# Altium integrated library Zilog ZNEO.IntLib: 27 symbols (part 1 of 2)
Pins are listed as number, name and electrical type; pins without a type are passive.

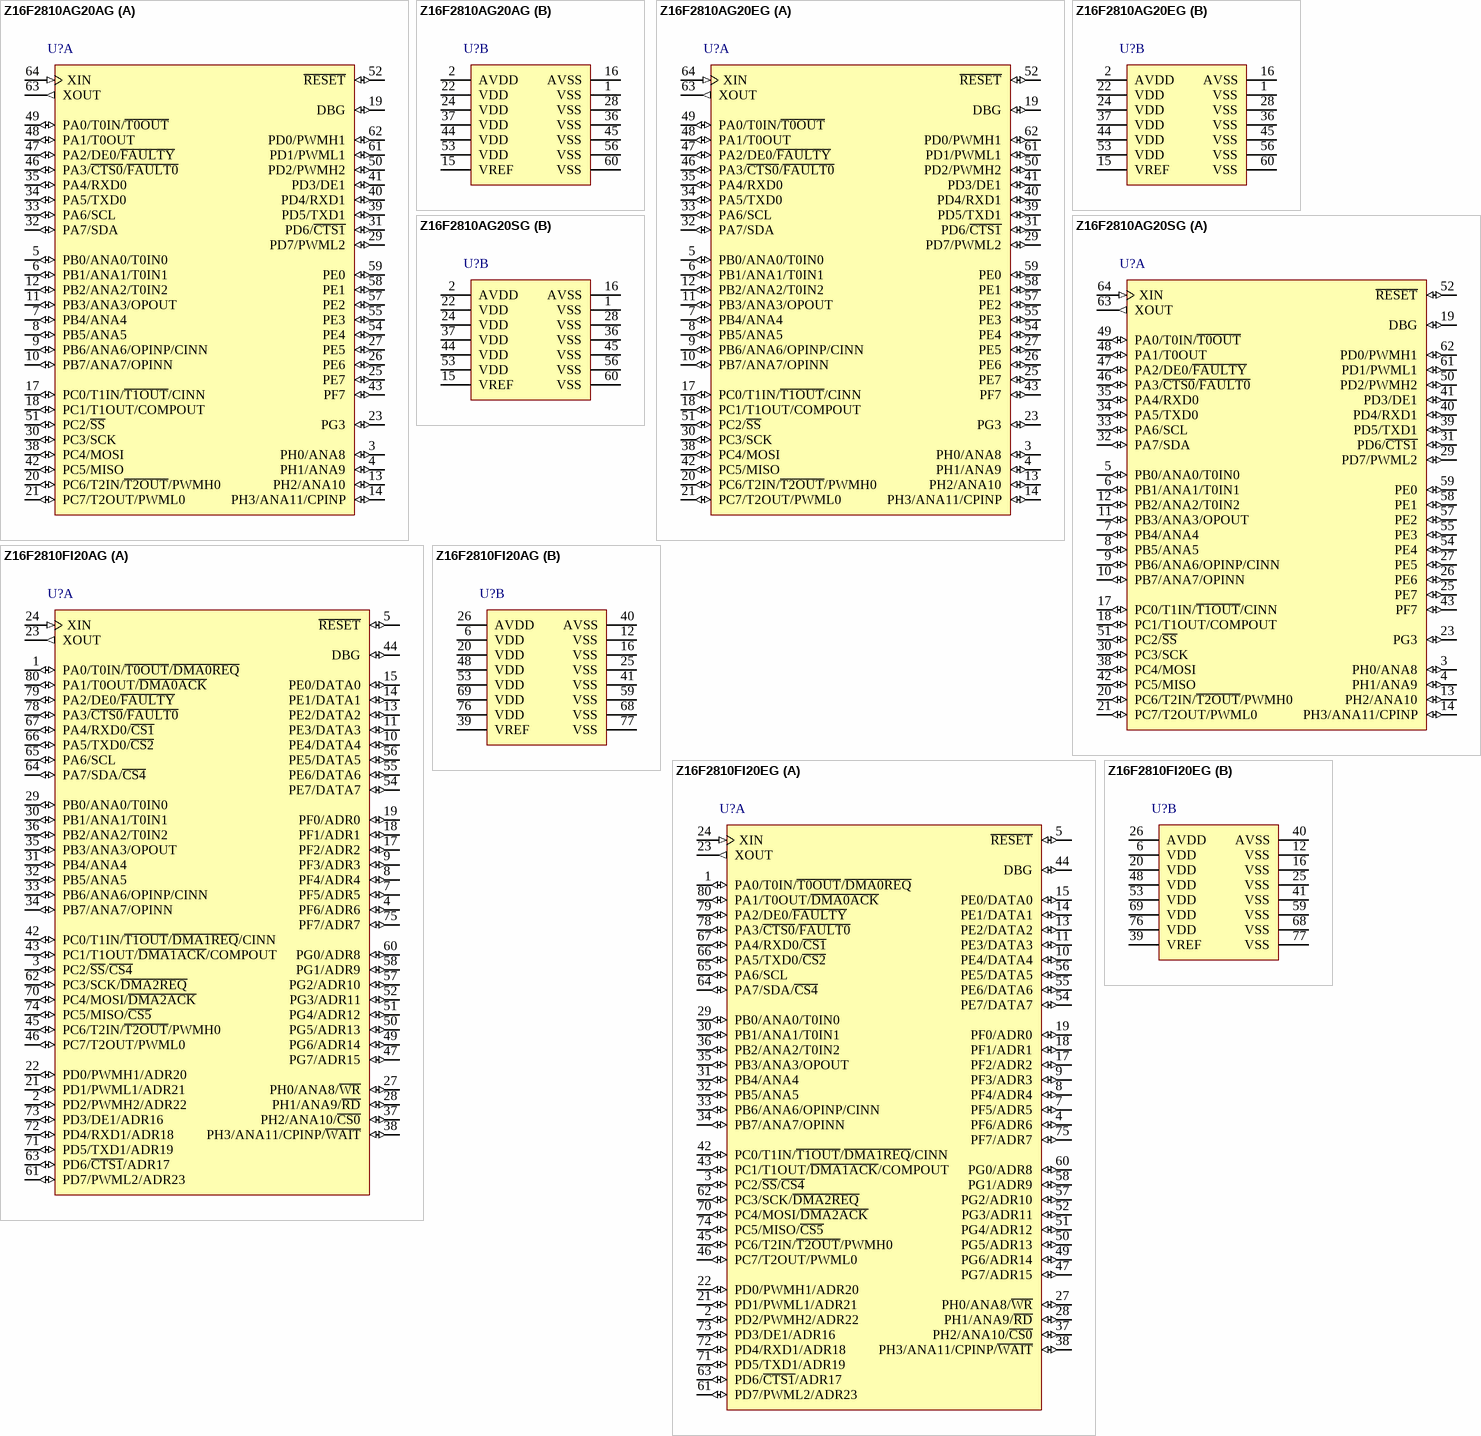
[diagram p0: symbols Z16F2810AG20AG to Z16F2810FI20EG]

## Z16F2810AG20AG
designator U?
Microcontroller, 16-Bit, ZNEO® Z16F Series, 20HMz, 128K Flash, 4K RAM, 46 IOs, 64-Pin LQFP, Automotive Grade, Pb-Free; DatasheetVersion: rev08, Aug-2010; PackageVersion: 1/08/2010; PackageReference: LQFP64; PackageDescription: 64-Pin Low-Profile Quad Flat Pack, 10 x 10 mm Body, 0.5 mm Pitch (LQFP); ComponentLink1Description: Manufacturer URL; ComponentLink1URL: http://www.zilog.com/
footprint LQFP64_N (Thin QFP, 64-Leads, Body 10x10mm, Pitch 0.5mm, IPC Medium Density)
footprint LQFP64_L (Thin QFP, 64-Leads, Body 10x10mm, Pitch 0.5mm, IPC High Density)
footprint LQFP64_M (Thin QFP, 64-Leads, Body 10x10mm, Pitch 0.5mm, IPC Low Density)
part A pins: 3 PH0/ANA8 (io), 4 PH1/ANA9 (io), 5 PB0/ANA0/T0IN0 (io), 6 PB1/ANA1/T0IN1 (io), 7 PB4/ANA4 (io), 8 PB5/ANA5 (io), 9 PB6/ANA6/OPINP/CINN (io), 10 PB7/ANA7/OPINN (io), 11 PB3/ANA3/OPOUT (io), 12 PB2/ANA2/T0IN2 (io), 13 PH2/ANA10 (io), 14 PH3/ANA11/CPINP (io), 17 PC0/T1IN/~{T1OUT}/CINN (io), 18 PC1/T1OUT/COMPOUT (io), 19 DBG (io), 20 PC6/T2IN/~{T2OUT}/PWMH0 (io), 21 PC7/T2OUT/PWML0 (io), 23 PG3 (io), 25 PE7 (io), 26 PE6 (io), 27 PE5 (io), 29 PD7/PWML2 (io), 30 PC3/SCK (io), 31 PD6/~{CTS1} (io), 32 PA7/SDA (io), 33 PA6/SCL (io), 34 PA5/TXD0 (io), 35 PA4/RXD0 (io), 38 PC4/MOSI (io), 39 PD5/TXD1 (io), 40 PD4/RXD1 (io), 41 PD3/DE1 (io), 42 PC5/MISO (io), 43 PF7 (io), 46 PA3/~{CTS0}/~{FAULT0} (io), 47 PA2/DE0/~{FAULTY} (io), 48 PA1/T0OUT (io), 49 PA0/T0IN/~{T0OUT} (io), 50 PD2/PWMH2 (io), 51 PC2/~{SS} (io), 52 ~{RESET} (io), 54 PE4 (io), 55 PE3 (io), 57 PE2 (io), 58 PE1 (io), 59 PE0 (io), 61 PD1/PWML1 (io), 62 PD0/PWMH1 (io), 63 XOUT (out), 64 XIN (in)
part B pins: 1 VSS (power), 2 AVDD (power), 15 VREF (power), 16 AVSS (power), 22 VDD (power), 24 VDD (power), 28 VSS (power), 36 VSS (power), 37 VDD (power), 44 VDD (power), 45 VSS (power), 53 VDD (power), 56 VSS (power), 60 VSS (power)

## Z16F2810AG20EG
designator U?
Microcontroller, 16-Bit, ZNEO® Z16F Series, 20HMz, 128K Flash, 4K RAM, 46 IOs, 64-Pin LQFP, Extended Grade, Pb-Free; DatasheetVersion: rev08, Aug-2010; PackageVersion: 1/08/2010; PackageReference: LQFP64; PackageDescription: 64-Pin Low-Profile Quad Flat Pack, 10 x 10 mm Body, 0.5 mm Pitch (LQFP); ComponentLink1Description: Manufacturer URL; ComponentLink1URL: http://www.zilog.com/
footprint LQFP64_N (Thin QFP, 64-Leads, Body 10x10mm, Pitch 0.5mm, IPC Medium Density)
footprint LQFP64_L (Thin QFP, 64-Leads, Body 10x10mm, Pitch 0.5mm, IPC High Density)
footprint LQFP64_M (Thin QFP, 64-Leads, Body 10x10mm, Pitch 0.5mm, IPC Low Density)
part A pins: 3 PH0/ANA8 (io), 4 PH1/ANA9 (io), 5 PB0/ANA0/T0IN0 (io), 6 PB1/ANA1/T0IN1 (io), 7 PB4/ANA4 (io), 8 PB5/ANA5 (io), 9 PB6/ANA6/OPINP/CINN (io), 10 PB7/ANA7/OPINN (io), 11 PB3/ANA3/OPOUT (io), 12 PB2/ANA2/T0IN2 (io), 13 PH2/ANA10 (io), 14 PH3/ANA11/CPINP (io), 17 PC0/T1IN/~{T1OUT}/CINN (io), 18 PC1/T1OUT/COMPOUT (io), 19 DBG (io), 20 PC6/T2IN/~{T2OUT}/PWMH0 (io), 21 PC7/T2OUT/PWML0 (io), 23 PG3 (io), 25 PE7 (io), 26 PE6 (io), 27 PE5 (io), 29 PD7/PWML2 (io), 30 PC3/SCK (io), 31 PD6/~{CTS1} (io), 32 PA7/SDA (io), 33 PA6/SCL (io), 34 PA5/TXD0 (io), 35 PA4/RXD0 (io), 38 PC4/MOSI (io), 39 PD5/TXD1 (io), 40 PD4/RXD1 (io), 41 PD3/DE1 (io), 42 PC5/MISO (io), 43 PF7 (io), 46 PA3/~{CTS0}/~{FAULT0} (io), 47 PA2/DE0/~{FAULTY} (io), 48 PA1/T0OUT (io), 49 PA0/T0IN/~{T0OUT} (io), 50 PD2/PWMH2 (io), 51 PC2/~{SS} (io), 52 ~{RESET} (io), 54 PE4 (io), 55 PE3 (io), 57 PE2 (io), 58 PE1 (io), 59 PE0 (io), 61 PD1/PWML1 (io), 62 PD0/PWMH1 (io), 63 XOUT (out), 64 XIN (in)
part B pins: 1 VSS (power), 2 AVDD (power), 15 VREF (power), 16 AVSS (power), 22 VDD (power), 24 VDD (power), 28 VSS (power), 36 VSS (power), 37 VDD (power), 44 VDD (power), 45 VSS (power), 53 VDD (power), 56 VSS (power), 60 VSS (power)

## Z16F2810AG20SG
designator U?
Microcontroller, 16-Bit, ZNEO® Z16F Series, 20HMz, 128K Flash, 4K RAM, 46 IOs, 64-Pin LQFP, Standard Grade, Pb-Free; DatasheetVersion: rev08, Aug-2010; PackageVersion: 1/08/2010; PackageReference: LQFP64; PackageDescription: 64-Pin Low-Profile Quad Flat Pack, 10 x 10 mm Body, 0.5 mm Pitch (LQFP); ComponentLink1Description: Manufacturer URL; ComponentLink1URL: http://www.zilog.com/
footprint LQFP64_N (Thin QFP, 64-Leads, Body 10x10mm, Pitch 0.5mm, IPC Medium Density)
footprint LQFP64_L (Thin QFP, 64-Leads, Body 10x10mm, Pitch 0.5mm, IPC High Density)
footprint LQFP64_M (Thin QFP, 64-Leads, Body 10x10mm, Pitch 0.5mm, IPC Low Density)
part A pins: 3 PH0/ANA8 (io), 4 PH1/ANA9 (io), 5 PB0/ANA0/T0IN0 (io), 6 PB1/ANA1/T0IN1 (io), 7 PB4/ANA4 (io), 8 PB5/ANA5 (io), 9 PB6/ANA6/OPINP/CINN (io), 10 PB7/ANA7/OPINN (io), 11 PB3/ANA3/OPOUT (io), 12 PB2/ANA2/T0IN2 (io), 13 PH2/ANA10 (io), 14 PH3/ANA11/CPINP (io), 17 PC0/T1IN/~{T1OUT}/CINN (io), 18 PC1/T1OUT/COMPOUT (io), 19 DBG (io), 20 PC6/T2IN/~{T2OUT}/PWMH0 (io), 21 PC7/T2OUT/PWML0 (io), 23 PG3 (io), 25 PE7 (io), 26 PE6 (io), 27 PE5 (io), 29 PD7/PWML2 (io), 30 PC3/SCK (io), 31 PD6/~{CTS1} (io), 32 PA7/SDA (io), 33 PA6/SCL (io), 34 PA5/TXD0 (io), 35 PA4/RXD0 (io), 38 PC4/MOSI (io), 39 PD5/TXD1 (io), 40 PD4/RXD1 (io), 41 PD3/DE1 (io), 42 PC5/MISO (io), 43 PF7 (io), 46 PA3/~{CTS0}/~{FAULT0} (io), 47 PA2/DE0/~{FAULTY} (io), 48 PA1/T0OUT (io), 49 PA0/T0IN/~{T0OUT} (io), 50 PD2/PWMH2 (io), 51 PC2/~{SS} (io), 52 ~{RESET} (io), 54 PE4 (io), 55 PE3 (io), 57 PE2 (io), 58 PE1 (io), 59 PE0 (io), 61 PD1/PWML1 (io), 62 PD0/PWMH1 (io), 63 XOUT (out), 64 XIN (in)
part B pins: 1 VSS (power), 2 AVDD (power), 15 VREF (power), 16 AVSS (power), 22 VDD (power), 24 VDD (power), 28 VSS (power), 36 VSS (power), 37 VDD (power), 44 VDD (power), 45 VSS (power), 53 VDD (power), 56 VSS (power), 60 VSS (power)

## Z16F2810FI20AG
designator U?
Microcontroller, 16-Bit, ZNEO® Z16F Series, 20HMz, 128K Flash, 4K RAM, 60 IOs, 80-Pin QFP, Automotive Grade, Pb-Free; DatasheetVersion: rev08, Aug-2010; PackageVersion: 1/08/2010; PackageReference: RQFP80; PackageDescription: 80-Pin Quad Flat Pack Rectangular 0.8 mm Pitch (QFP); ComponentLink1Description: Manufacturer URL; ComponentLink1URL: http://www.zilog.com/
footprint RQFP80_N (QFP, 80-Leads, Body 20x14mm, Pitch 0.8mm, IPC Medium Density)
footprint RQFP80_L (QFP, 80-Leads, Body 20x14mm, Pitch 0.8mm, IPC High Density)
footprint RQFP80_M (QFP, 80-Leads, Body 20x14mm, Pitch 0.8mm, IPC Low Density)
part A pins: 1 PA0/T0IN/~{T0OUT}/~{DMA0REQ} (io), 2 PD2/PWMH2/ADR22 (io), 3 PC2/~{SS}/~{CS4} (io), 4 PF6/ADR6 (io), 5 ~{RESET} (io), 7 PF5/ADR5 (io), 8 PF4/ADR4 (io), 9 PF3/ADR3 (io), 10 PE4/DATA4 (io), 11 PE3/DATA3 (io), 13 PE2/DATA2 (io), 14 PE1/DATA1 (io), 15 PE0/DATA0 (io), 17 PF2/ADR2 (io), 18 PF1/ADR1 (io), 19 PF0/ADR0 (io), 21 PD1/PWML1/ADR21 (io), 22 PD0/PWMH1/ADR20 (io), 23 XOUT (out), 24 XIN (in), 27 PH0/ANA8/~{WR} (io), 28 PH1/ANA9/~{RD} (io), 29 PB0/ANA0/T0IN0 (io), 30 PB1/ANA1/T0IN1 (io), 31 PB4/ANA4 (io), 32 PB5/ANA5 (io), 33 PB6/ANA6/OPINP/CINN (io), 34 PB7/ANA7/OPINN (io), 35 PB3/ANA3/OPOUT (io), 36 PB2/ANA2/T0IN2 (io), 37 PH2/ANA10/~{CS0} (io), 38 PH3/ANA11/CPINP/~{WAIT} (io), 42 PC0/T1IN/~{T1OUT}/~{DMA1REQ}/CINN (io), 43 PC1/T1OUT/~{DMA1ACK}/COMPOUT (io), 44 DBG (io), 45 PC6/T2IN/~{T2OUT}/PWMH0 (io), 46 PC7/T2OUT/PWML0 (io), 47 PG7/ADR15 (io), 49 PG6/ADR14 (io), 50 PG5/ADR13 (io), 51 PG4/ADR12 (io), 52 PG3/ADR11 (io), 54 PE7/DATA7 (io), 55 PE6/DATA6 (io), 56 PE5/DATA5 (io), 57 PG2/ADR10 (io), 58 PG1/ADR9 (io), 60 PG0/ADR8 (io), 61 PD7/PWML2/ADR23 (io), 62 PC3/SCK/~{DMA2REQ} (io), 63 PD6/~{CTS1}/ADR17 (io), 64 PA7/SDA/~{CS4} (io), 65 PA6/SCL (io), 66 PA5/TXD0/~{CS2} (io), 67 PA4/RXD0/~{CS1} (io), 70 PC4/MOSI/~{DMA2ACK} (io), 71 PD5/TXD1/ADR19 (io), 72 PD4/RXD1/ADR18 (io), 73 PD3/DE1/ADR16 (io), 74 PC5/MISO/~{CS5} (io), 75 PF7/ADR7 (io), 78 PA3/~{CTS0}/~{FAULT0} (io), 79 PA2/DE0/~{FAULTY} (io), 80 PA1/T0OUT/~{DMA0ACK} (io)
part B pins: 6 VDD (power), 12 VSS (power), 16 VSS (power), 20 VDD (power), 25 VSS (power), 26 AVDD (power), 39 VREF (power), 40 AVSS (power), 41 VSS (power), 48 VDD (power), 53 VDD (power), 59 VSS (power), 68 VSS (power), 69 VDD (power), 76 VDD (power), 77 VSS (power)

## Z16F2810FI20EG
designator U?
Microcontroller, 16-Bit, ZNEO® Z16F Series, 20HMz, 128K Flash, 4K RAM, 60 IOs, 80-Pin QFP, Extended Grade, Pb-Free; DatasheetVersion: rev08, Aug-2010; PackageVersion: 1/08/2010; PackageReference: RQFP80; PackageDescription: 80-Pin Quad Flat Pack Rectangular 0.8 mm Pitch (QFP); ComponentLink1Description: Manufacturer URL; ComponentLink1URL: http://www.zilog.com/
footprint RQFP80_N (QFP, 80-Leads, Body 20x14mm, Pitch 0.8mm, IPC Medium Density)
footprint RQFP80_L (QFP, 80-Leads, Body 20x14mm, Pitch 0.8mm, IPC High Density)
footprint RQFP80_M (QFP, 80-Leads, Body 20x14mm, Pitch 0.8mm, IPC Low Density)
part A pins: 1 PA0/T0IN/~{T0OUT}/~{DMA0REQ} (io), 2 PD2/PWMH2/ADR22 (io), 3 PC2/~{SS}/~{CS4} (io), 4 PF6/ADR6 (io), 5 ~{RESET} (io), 7 PF5/ADR5 (io), 8 PF4/ADR4 (io), 9 PF3/ADR3 (io), 10 PE4/DATA4 (io), 11 PE3/DATA3 (io), 13 PE2/DATA2 (io), 14 PE1/DATA1 (io), 15 PE0/DATA0 (io), 17 PF2/ADR2 (io), 18 PF1/ADR1 (io), 19 PF0/ADR0 (io), 21 PD1/PWML1/ADR21 (io), 22 PD0/PWMH1/ADR20 (io), 23 XOUT (out), 24 XIN (in), 27 PH0/ANA8/~{WR} (io), 28 PH1/ANA9/~{RD} (io), 29 PB0/ANA0/T0IN0 (io), 30 PB1/ANA1/T0IN1 (io), 31 PB4/ANA4 (io), 32 PB5/ANA5 (io), 33 PB6/ANA6/OPINP/CINN (io), 34 PB7/ANA7/OPINN (io), 35 PB3/ANA3/OPOUT (io), 36 PB2/ANA2/T0IN2 (io), 37 PH2/ANA10/~{CS0} (io), 38 PH3/ANA11/CPINP/~{WAIT} (io), 42 PC0/T1IN/~{T1OUT}/~{DMA1REQ}/CINN (io), 43 PC1/T1OUT/~{DMA1ACK}/COMPOUT (io), 44 DBG (io), 45 PC6/T2IN/~{T2OUT}/PWMH0 (io), 46 PC7/T2OUT/PWML0 (io), 47 PG7/ADR15 (io), 49 PG6/ADR14 (io), 50 PG5/ADR13 (io), 51 PG4/ADR12 (io), 52 PG3/ADR11 (io), 54 PE7/DATA7 (io), 55 PE6/DATA6 (io), 56 PE5/DATA5 (io), 57 PG2/ADR10 (io), 58 PG1/ADR9 (io), 60 PG0/ADR8 (io), 61 PD7/PWML2/ADR23 (io), 62 PC3/SCK/~{DMA2REQ} (io), 63 PD6/~{CTS1}/ADR17 (io), 64 PA7/SDA/~{CS4} (io), 65 PA6/SCL (io), 66 PA5/TXD0/~{CS2} (io), 67 PA4/RXD0/~{CS1} (io), 70 PC4/MOSI/~{DMA2ACK} (io), 71 PD5/TXD1/ADR19 (io), 72 PD4/RXD1/ADR18 (io), 73 PD3/DE1/ADR16 (io), 74 PC5/MISO/~{CS5} (io), 75 PF7/ADR7 (io), 78 PA3/~{CTS0}/~{FAULT0} (io), 79 PA2/DE0/~{FAULTY} (io), 80 PA1/T0OUT/~{DMA0ACK} (io)
part B pins: 6 VDD (power), 12 VSS (power), 16 VSS (power), 20 VDD (power), 25 VSS (power), 26 AVDD (power), 39 VREF (power), 40 AVSS (power), 41 VSS (power), 48 VDD (power), 53 VDD (power), 59 VSS (power), 68 VSS (power), 69 VDD (power), 76 VDD (power), 77 VSS (power)

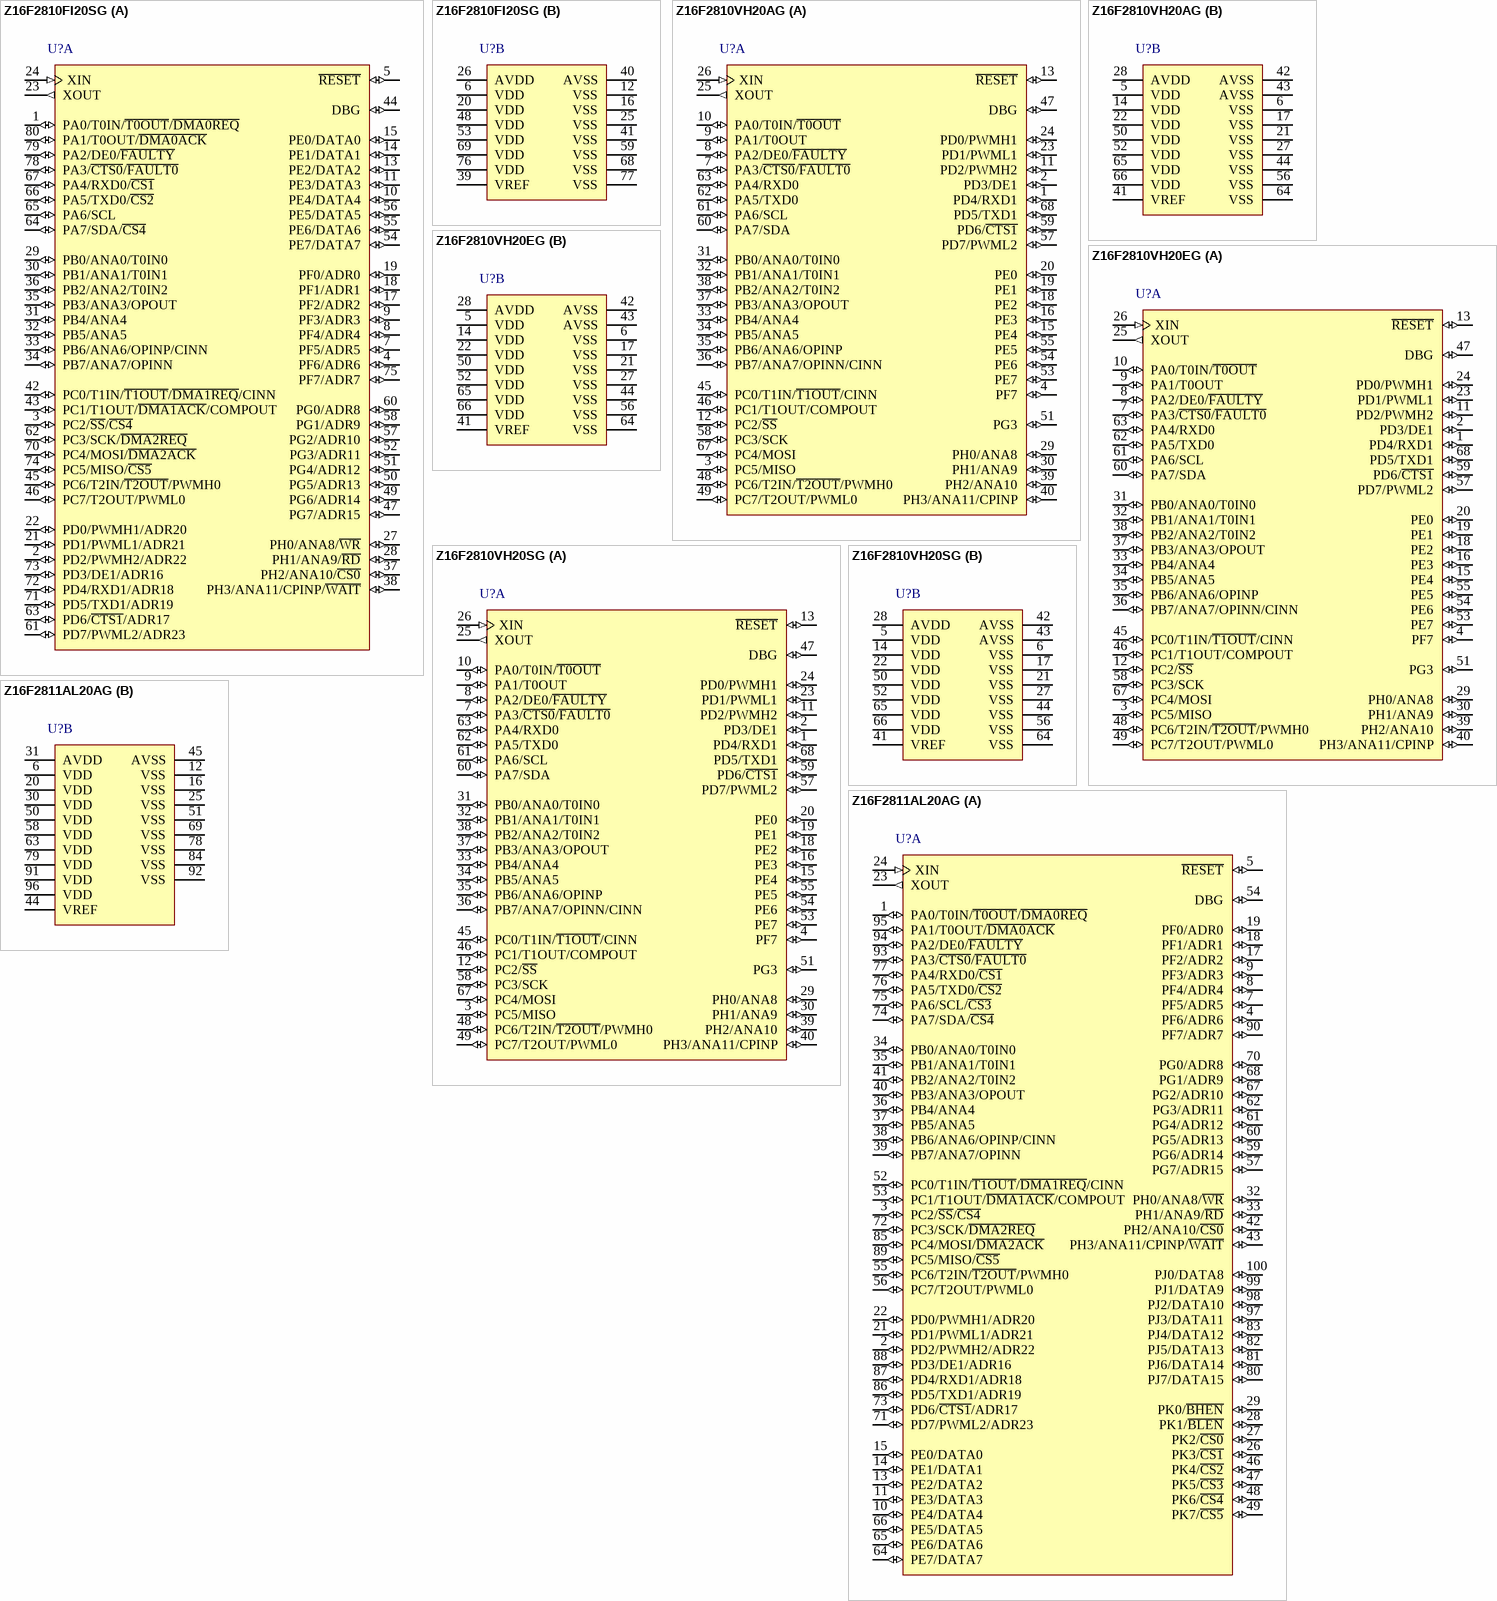
[diagram p1: symbols Z16F2810FI20SG to Z16F2811AL20AG]

## Z16F2810FI20SG
designator U?
Microcontroller, 16-Bit, ZNEO® Z16F Series, 20HMz, 128K Flash, 4K RAM, 60 IOs, 80-Pin QFP, Standard Grade, Pb-Free; DatasheetVersion: rev08, Aug-2010; PackageVersion: 1/08/2010; PackageReference: RQFP80; PackageDescription: 80-Pin Quad Flat Pack Rectangular 0.8 mm Pitch (QFP); ComponentLink1Description: Manufacturer URL; ComponentLink1URL: http://www.zilog.com/
footprint RQFP80_N (QFP, 80-Leads, Body 20x14mm, Pitch 0.8mm, IPC Medium Density)
footprint RQFP80_L (QFP, 80-Leads, Body 20x14mm, Pitch 0.8mm, IPC High Density)
footprint RQFP80_M (QFP, 80-Leads, Body 20x14mm, Pitch 0.8mm, IPC Low Density)
part A pins: 1 PA0/T0IN/~{T0OUT}/~{DMA0REQ} (io), 2 PD2/PWMH2/ADR22 (io), 3 PC2/~{SS}/~{CS4} (io), 4 PF6/ADR6 (io), 5 ~{RESET} (io), 7 PF5/ADR5 (io), 8 PF4/ADR4 (io), 9 PF3/ADR3 (io), 10 PE4/DATA4 (io), 11 PE3/DATA3 (io), 13 PE2/DATA2 (io), 14 PE1/DATA1 (io), 15 PE0/DATA0 (io), 17 PF2/ADR2 (io), 18 PF1/ADR1 (io), 19 PF0/ADR0 (io), 21 PD1/PWML1/ADR21 (io), 22 PD0/PWMH1/ADR20 (io), 23 XOUT (out), 24 XIN (in), 27 PH0/ANA8/~{WR} (io), 28 PH1/ANA9/~{RD} (io), 29 PB0/ANA0/T0IN0 (io), 30 PB1/ANA1/T0IN1 (io), 31 PB4/ANA4 (io), 32 PB5/ANA5 (io), 33 PB6/ANA6/OPINP/CINN (io), 34 PB7/ANA7/OPINN (io), 35 PB3/ANA3/OPOUT (io), 36 PB2/ANA2/T0IN2 (io), 37 PH2/ANA10/~{CS0} (io), 38 PH3/ANA11/CPINP/~{WAIT} (io), 42 PC0/T1IN/~{T1OUT}/~{DMA1REQ}/CINN (io), 43 PC1/T1OUT/~{DMA1ACK}/COMPOUT (io), 44 DBG (io), 45 PC6/T2IN/~{T2OUT}/PWMH0 (io), 46 PC7/T2OUT/PWML0 (io), 47 PG7/ADR15 (io), 49 PG6/ADR14 (io), 50 PG5/ADR13 (io), 51 PG4/ADR12 (io), 52 PG3/ADR11 (io), 54 PE7/DATA7 (io), 55 PE6/DATA6 (io), 56 PE5/DATA5 (io), 57 PG2/ADR10 (io), 58 PG1/ADR9 (io), 60 PG0/ADR8 (io), 61 PD7/PWML2/ADR23 (io), 62 PC3/SCK/~{DMA2REQ} (io), 63 PD6/~{CTS1}/ADR17 (io), 64 PA7/SDA/~{CS4} (io), 65 PA6/SCL (io), 66 PA5/TXD0/~{CS2} (io), 67 PA4/RXD0/~{CS1} (io), 70 PC4/MOSI/~{DMA2ACK} (io), 71 PD5/TXD1/ADR19 (io), 72 PD4/RXD1/ADR18 (io), 73 PD3/DE1/ADR16 (io), 74 PC5/MISO/~{CS5} (io), 75 PF7/ADR7 (io), 78 PA3/~{CTS0}/~{FAULT0} (io), 79 PA2/DE0/~{FAULTY} (io), 80 PA1/T0OUT/~{DMA0ACK} (io)
part B pins: 6 VDD (power), 12 VSS (power), 16 VSS (power), 20 VDD (power), 25 VSS (power), 26 AVDD (power), 39 VREF (power), 40 AVSS (power), 41 VSS (power), 48 VDD (power), 53 VDD (power), 59 VSS (power), 68 VSS (power), 69 VDD (power), 76 VDD (power), 77 VSS (power)

## Z16F2810VH20AG
designator U?
Microcontroller, 16-Bit, ZNEO® Z16F Series, 20HMz, 128K Flash, 4K RAM, 46 IOs, 68-Pin PLCC, Automotive Grade, Pb-Free; DatasheetVersion: rev08, Aug-2010; PackageVersion: 1/08/2010; PackageReference: PLCC68; PackageDescription: 68-Pin Plastic Leaded Chip Carrier 1.27 mm Pitch (PLCC); Code_IPC: PLCC-68; ComponentLink1Description: Manufacturer URL; ComponentLink1URL: http://www.zilog.com/
footprint PLCC68_N (Leaded Chip Carrier, 68-Leads, Body 24x24mm, Pitch 1.27mm, IPC Medium Density)
footprint PLCC68_L (Leaded Chip Carrier, 68-Leads, Body 24x24mm, Pitch 1.27mm, IPC High Density)
footprint PLCC68_M (Leaded Chip Carrier, 68-Leads, Body 24x24mm, Pitch 1.27mm, IPC Low Density)
part A pins: 1 PD4/RXD1 (io), 2 PD3/DE1 (io), 3 PC5/MISO (io), 4 PF7 (io), 7 PA3/~{CTS0}/~{FAULT0} (io), 8 PA2/DE0/~{FAULTY} (io), 9 PA1/T0OUT (io), 10 PA0/T0IN/~{T0OUT} (io), 11 PD2/PWMH2 (io), 12 PC2/~{SS} (io), 13 ~{RESET} (io), 15 PE4 (io), 16 PE3 (io), 18 PE2 (io), 19 PE1 (io), 20 PE0 (io), 23 PD1/PWML1 (io), 24 PD0/PWMH1 (io), 25 XOUT (out), 26 XIN (in), 29 PH0/ANA8 (io), 30 PH1/ANA9 (io), 31 PB0/ANA0/T0IN0 (io), 32 PB1/ANA1/T0IN1 (io), 33 PB4/ANA4 (io), 34 PB5/ANA5 (io), 35 PB6/ANA6/OPINP (io), 36 PB7/ANA7/OPINN/CINN (io), 37 PB3/ANA3/OPOUT (io), 38 PB2/ANA2/T0IN2 (io), 39 PH2/ANA10 (io), 40 PH3/ANA11/CPINP (io), 45 PC0/T1IN/~{T1OUT}/CINN (io), 46 PC1/T1OUT/COMPOUT (io), 47 DBG (io), 48 PC6/T2IN/~{T2OUT}/PWMH0 (io), 49 PC7/T2OUT/PWML0 (io), 51 PG3 (io), 53 PE7 (io), 54 PE6 (io), 55 PE5 (io), 57 PD7/PWML2 (io), 58 PC3/SCK (io), 59 PD6/~{CTS1} (io), 60 PA7/SDA (io), 61 PA6/SCL (io), 62 PA5/TXD0 (io), 63 PA4/RXD0 (io), 67 PC4/MOSI (io), 68 PD5/TXD1 (io)
part B pins: 5 VDD (power), 6 VSS (power), 14 VDD (power), 17 VSS (power), 21 VSS (power), 22 VDD (power), 27 VSS (power), 28 AVDD (power), 41 VREF (power), 42 AVSS (power), 43 AVSS (power), 44 VSS (power), 50 VDD (power), 52 VDD (power), 56 VSS (power), 64 VSS (power), 65 VDD (power), 66 VDD (power)

## Z16F2810VH20EG
designator U?
Microcontroller, 16-Bit, ZNEO® Z16F Series, 20HMz, 128K Flash, 4K RAM, 46 IOs, 68-Pin PLCC, Extended Grade, Pb-Free; DatasheetVersion: rev08, Aug-2010; PackageVersion: 1/08/2010; PackageReference: PLCC68; PackageDescription: 68-Pin Plastic Leaded Chip Carrier 1.27 mm Pitch (PLCC); Code_IPC: PLCC-68; ComponentLink1Description: Manufacturer URL; ComponentLink1URL: http://www.zilog.com/
footprint PLCC68_N (Leaded Chip Carrier, 68-Leads, Body 24x24mm, Pitch 1.27mm, IPC Medium Density)
footprint PLCC68_L (Leaded Chip Carrier, 68-Leads, Body 24x24mm, Pitch 1.27mm, IPC High Density)
footprint PLCC68_M (Leaded Chip Carrier, 68-Leads, Body 24x24mm, Pitch 1.27mm, IPC Low Density)
part A pins: 1 PD4/RXD1 (io), 2 PD3/DE1 (io), 3 PC5/MISO (io), 4 PF7 (io), 7 PA3/~{CTS0}/~{FAULT0} (io), 8 PA2/DE0/~{FAULTY} (io), 9 PA1/T0OUT (io), 10 PA0/T0IN/~{T0OUT} (io), 11 PD2/PWMH2 (io), 12 PC2/~{SS} (io), 13 ~{RESET} (io), 15 PE4 (io), 16 PE3 (io), 18 PE2 (io), 19 PE1 (io), 20 PE0 (io), 23 PD1/PWML1 (io), 24 PD0/PWMH1 (io), 25 XOUT (out), 26 XIN (in), 29 PH0/ANA8 (io), 30 PH1/ANA9 (io), 31 PB0/ANA0/T0IN0 (io), 32 PB1/ANA1/T0IN1 (io), 33 PB4/ANA4 (io), 34 PB5/ANA5 (io), 35 PB6/ANA6/OPINP (io), 36 PB7/ANA7/OPINN/CINN (io), 37 PB3/ANA3/OPOUT (io), 38 PB2/ANA2/T0IN2 (io), 39 PH2/ANA10 (io), 40 PH3/ANA11/CPINP (io), 45 PC0/T1IN/~{T1OUT}/CINN (io), 46 PC1/T1OUT/COMPOUT (io), 47 DBG (io), 48 PC6/T2IN/~{T2OUT}/PWMH0 (io), 49 PC7/T2OUT/PWML0 (io), 51 PG3 (io), 53 PE7 (io), 54 PE6 (io), 55 PE5 (io), 57 PD7/PWML2 (io), 58 PC3/SCK (io), 59 PD6/~{CTS1} (io), 60 PA7/SDA (io), 61 PA6/SCL (io), 62 PA5/TXD0 (io), 63 PA4/RXD0 (io), 67 PC4/MOSI (io), 68 PD5/TXD1 (io)
part B pins: 5 VDD (power), 6 VSS (power), 14 VDD (power), 17 VSS (power), 21 VSS (power), 22 VDD (power), 27 VSS (power), 28 AVDD (power), 41 VREF (power), 42 AVSS (power), 43 AVSS (power), 44 VSS (power), 50 VDD (power), 52 VDD (power), 56 VSS (power), 64 VSS (power), 65 VDD (power), 66 VDD (power)

## Z16F2810VH20SG
designator U?
Microcontroller, 16-Bit, ZNEO® Z16F Series, 20HMz, 128K Flash, 4K RAM, 46 IOs, 68-Pin PLCC, Standard Grade, Pb-Free; DatasheetVersion: rev08, Aug-2010; PackageVersion: 1/08/2010; PackageReference: PLCC68; PackageDescription: 68-Pin Plastic Leaded Chip Carrier 1.27 mm Pitch (PLCC); Code_IPC: PLCC-68; ComponentLink1Description: Manufacturer URL; ComponentLink1URL: http://www.zilog.com/
footprint PLCC68_N (Leaded Chip Carrier, 68-Leads, Body 24x24mm, Pitch 1.27mm, IPC Medium Density)
footprint PLCC68_L (Leaded Chip Carrier, 68-Leads, Body 24x24mm, Pitch 1.27mm, IPC High Density)
footprint PLCC68_M (Leaded Chip Carrier, 68-Leads, Body 24x24mm, Pitch 1.27mm, IPC Low Density)
part A pins: 1 PD4/RXD1 (io), 2 PD3/DE1 (io), 3 PC5/MISO (io), 4 PF7 (io), 7 PA3/~{CTS0}/~{FAULT0} (io), 8 PA2/DE0/~{FAULTY} (io), 9 PA1/T0OUT (io), 10 PA0/T0IN/~{T0OUT} (io), 11 PD2/PWMH2 (io), 12 PC2/~{SS} (io), 13 ~{RESET} (io), 15 PE4 (io), 16 PE3 (io), 18 PE2 (io), 19 PE1 (io), 20 PE0 (io), 23 PD1/PWML1 (io), 24 PD0/PWMH1 (io), 25 XOUT (out), 26 XIN (in), 29 PH0/ANA8 (io), 30 PH1/ANA9 (io), 31 PB0/ANA0/T0IN0 (io), 32 PB1/ANA1/T0IN1 (io), 33 PB4/ANA4 (io), 34 PB5/ANA5 (io), 35 PB6/ANA6/OPINP (io), 36 PB7/ANA7/OPINN/CINN (io), 37 PB3/ANA3/OPOUT (io), 38 PB2/ANA2/T0IN2 (io), 39 PH2/ANA10 (io), 40 PH3/ANA11/CPINP (io), 45 PC0/T1IN/~{T1OUT}/CINN (io), 46 PC1/T1OUT/COMPOUT (io), 47 DBG (io), 48 PC6/T2IN/~{T2OUT}/PWMH0 (io), 49 PC7/T2OUT/PWML0 (io), 51 PG3 (io), 53 PE7 (io), 54 PE6 (io), 55 PE5 (io), 57 PD7/PWML2 (io), 58 PC3/SCK (io), 59 PD6/~{CTS1} (io), 60 PA7/SDA (io), 61 PA6/SCL (io), 62 PA5/TXD0 (io), 63 PA4/RXD0 (io), 67 PC4/MOSI (io), 68 PD5/TXD1 (io)
part B pins: 5 VDD (power), 6 VSS (power), 14 VDD (power), 17 VSS (power), 21 VSS (power), 22 VDD (power), 27 VSS (power), 28 AVDD (power), 41 VREF (power), 42 AVSS (power), 43 AVSS (power), 44 VSS (power), 50 VDD (power), 52 VDD (power), 56 VSS (power), 64 VSS (power), 65 VDD (power), 66 VDD (power)

## Z16F2811AL20AG
designator U?
Microcontroller, 16-Bit, ZNEO® Z16F Series, 20HMz, 128K Flash, 4K RAM, 76 IOs, 100-Pin LQFP, Automotive Grade, Pb-Free; DatasheetVersion: rev08, Aug-2010; PackageVersion: 1/08/2010; PackageReference: LQFP100; PackageDescription: 100-Pin Low-Profile Quad Flat Pack, 14 x 14 mm Body, 0.5 mm Pitch (LQFP); ComponentLink1Description: Manufacturer URL; ComponentLink1URL: http://www.zilog.com/
footprint LQFP100_N (Thin QFP, 100-Leads, Body 14x14mm, Pitch 0.5mm, IPC Medium Density)
footprint LQFP100_L (Thin QFP, 100-Leads, Body 14x14mm, Pitch 0.5mm, IPC High Density)
footprint LQFP100_M (Thin QFP, 100-Leads, Body 14x14mm, Pitch 0.5mm, IPC Low Density)
part A pins: 1 PA0/T0IN/~{T0OUT}/~{DMA0REQ} (io), 2 PD2/PWMH2/ADR22 (io), 3 PC2/~{SS}/~{CS4} (io), 4 PF6/ADR6 (io), 5 ~{RESET} (io), 7 PF5/ADR5 (io), 8 PF4/ADR4 (io), 9 PF3/ADR3 (io), 10 PE4/DATA4 (io), 11 PE3/DATA3 (io), 13 PE2/DATA2 (io), 14 PE1/DATA1 (io), 15 PE0/DATA0 (io), 17 PF2/ADR2 (io), 18 PF1/ADR1 (io), 19 PF0/ADR0 (io), 21 PD1/PWML1/ADR21 (io), 22 PD0/PWMH1/ADR20 (io), 23 XOUT (out), 24 XIN (in), 26 PK3/~{CS1} (io), 27 PK2/~{CS0} (io), 28 PK1/~{BLEN} (io), 29 PK0/~{BHEN} (io), 32 PH0/ANA8/~{WR} (io), 33 PH1/ANA9/~{RD} (io), 34 PB0/ANA0/T0IN0 (io), 35 PB1/ANA1/T0IN1 (io), 36 PB4/ANA4 (io), 37 PB5/ANA5 (io), 38 PB6/ANA6/OPINP/CINN (io), 39 PB7/ANA7/OPINN (io), 40 PB3/ANA3/OPOUT (io), 41 PB2/ANA2/T0IN2 (io), 42 PH2/ANA10/~{CS0} (io), 43 PH3/ANA11/CPINP/~{WAIT} (io), 46 PK4/~{CS2} (io), 47 PK5/~{CS3} (io), 48 PK6/~{CS4} (io), 49 PK7/~{CS5} (io), 52 PC0/T1IN/~{T1OUT}/~{DMA1REQ}/CINN (io), 53 PC1/T1OUT/~{DMA1ACK}/COMPOUT (io), 54 DBG (io), 55 PC6/T2IN/~{T2OUT}/PWMH0 (io), 56 PC7/T2OUT/PWML0 (io), 57 PG7/ADR15 (io), 59 PG6/ADR14 (io), 60 PG5/ADR13 (io), 61 PG4/ADR12 (io), 62 PG3/ADR11 (io), 64 PE7/DATA7 (io), 65 PE6/DATA6 (io), 66 PE5/DATA5 (io), 67 PG2/ADR10 (io), 68 PG1/ADR9 (io), 70 PG0/ADR8 (io), 71 PD7/PWML2/ADR23 (io), 72 PC3/SCK/~{DMA2REQ} (io), 73 PD6/~{CTS1}/ADR17 (io), 74 PA7/SDA/~{CS4} (io), 75 PA6/SCL/~{CS3} (io), 76 PA5/TXD0/~{CS2} (io), 77 PA4/RXD0/~{CS1} (io), 80 PJ7/DATA15 (io), 81 PJ6/DATA14 (io), 82 PJ5/DATA13 (io), 83 PJ4/DATA12 (io), 85 PC4/MOSI/~{DMA2ACK} (io), 86 PD5/TXD1/ADR19 (io), 87 PD4/RXD1/ADR18 (io), 88 PD3/DE1/ADR16 (io), 89 PC5/MISO/~{CS5} (io), 90 PF7/ADR7 (io), 93 PA3/~{CTS0}/~{FAULT0} (io), 94 PA2/DE0/~{FAULTY} (io), 95 PA1/T0OUT/~{DMA0ACK} (io), 97 PJ3/DATA11 (io), 98 PJ2/DATA10 (io), 99 PJ1/DATA9 (io), 100 PJ0/DATA8 (io)
part B pins: 6 VDD (power), 12 VSS (power), 16 VSS (power), 20 VDD (power), 25 VSS (power), 30 VDD (power), 31 AVDD (power), 44 VREF (power), 45 AVSS (power), 50 VDD (power), 51 VSS (power), 58 VDD (power), 63 VDD (power), 69 VSS (power), 78 VSS (power), 79 VDD (power), 84 VSS (power), 91 VDD (power), 92 VSS (power), 96 VDD (power)

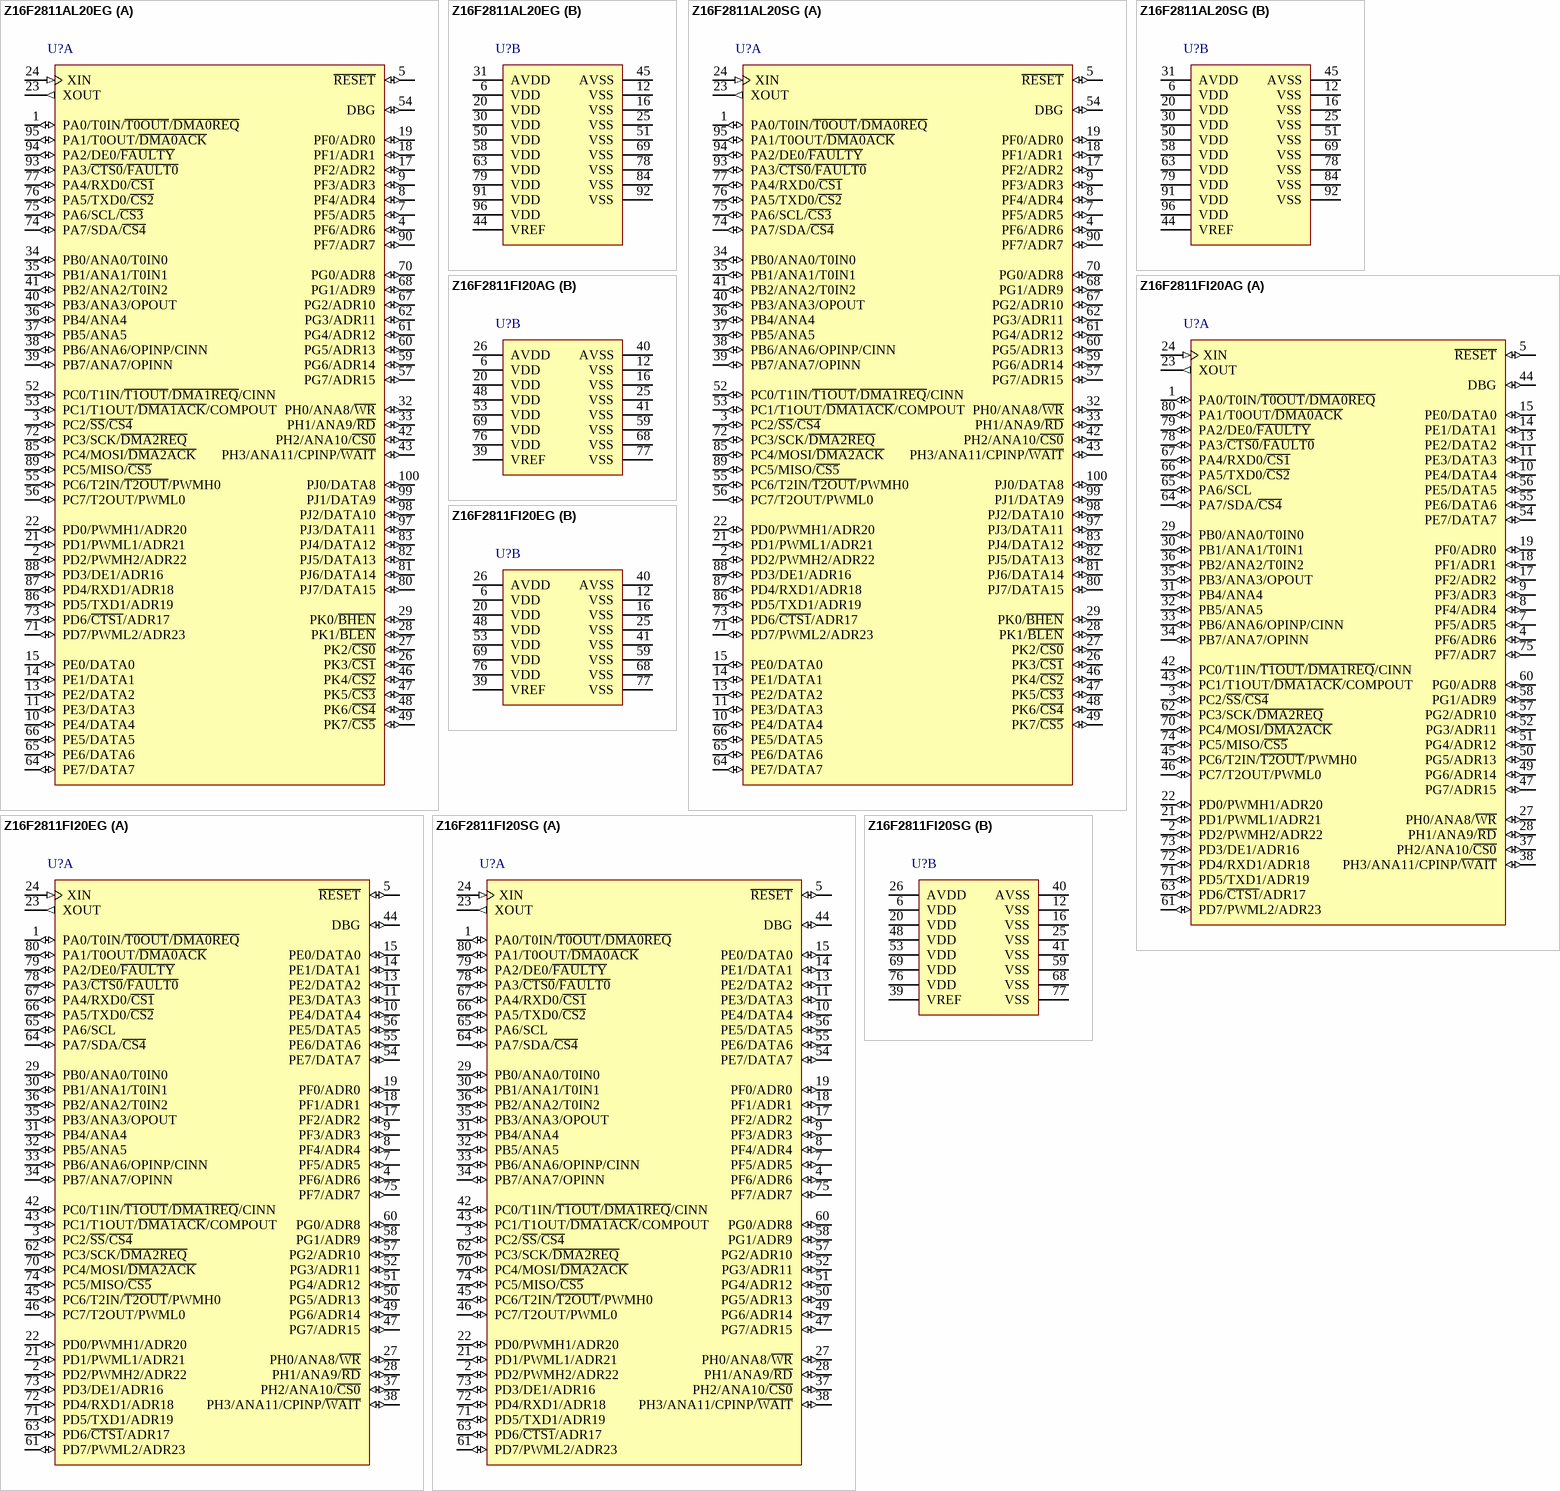
[diagram p2: symbols Z16F2811AL20EG to Z16F2811FI20SG]

## Z16F2811AL20EG
designator U?
Microcontroller, 16-Bit, ZNEO® Z16F Series, 20HMz, 128K Flash, 4K RAM, 76 IOs, 100-Pin LQFP, Extended Grade, Pb-Free; DatasheetVersion: rev08, Aug-2010; PackageVersion: 1/08/2010; PackageReference: LQFP100; PackageDescription: 100-Pin Low-Profile Quad Flat Pack, 14 x 14 mm Body, 0.5 mm Pitch (LQFP); ComponentLink1Description: Manufacturer URL; ComponentLink1URL: http://www.zilog.com/
footprint LQFP100_N (Thin QFP, 100-Leads, Body 14x14mm, Pitch 0.5mm, IPC Medium Density)
footprint LQFP100_L (Thin QFP, 100-Leads, Body 14x14mm, Pitch 0.5mm, IPC High Density)
footprint LQFP100_M (Thin QFP, 100-Leads, Body 14x14mm, Pitch 0.5mm, IPC Low Density)
part A pins: 1 PA0/T0IN/~{T0OUT}/~{DMA0REQ} (io), 2 PD2/PWMH2/ADR22 (io), 3 PC2/~{SS}/~{CS4} (io), 4 PF6/ADR6 (io), 5 ~{RESET} (io), 7 PF5/ADR5 (io), 8 PF4/ADR4 (io), 9 PF3/ADR3 (io), 10 PE4/DATA4 (io), 11 PE3/DATA3 (io), 13 PE2/DATA2 (io), 14 PE1/DATA1 (io), 15 PE0/DATA0 (io), 17 PF2/ADR2 (io), 18 PF1/ADR1 (io), 19 PF0/ADR0 (io), 21 PD1/PWML1/ADR21 (io), 22 PD0/PWMH1/ADR20 (io), 23 XOUT (out), 24 XIN (in), 26 PK3/~{CS1} (io), 27 PK2/~{CS0} (io), 28 PK1/~{BLEN} (io), 29 PK0/~{BHEN} (io), 32 PH0/ANA8/~{WR} (io), 33 PH1/ANA9/~{RD} (io), 34 PB0/ANA0/T0IN0 (io), 35 PB1/ANA1/T0IN1 (io), 36 PB4/ANA4 (io), 37 PB5/ANA5 (io), 38 PB6/ANA6/OPINP/CINN (io), 39 PB7/ANA7/OPINN (io), 40 PB3/ANA3/OPOUT (io), 41 PB2/ANA2/T0IN2 (io), 42 PH2/ANA10/~{CS0} (io), 43 PH3/ANA11/CPINP/~{WAIT} (io), 46 PK4/~{CS2} (io), 47 PK5/~{CS3} (io), 48 PK6/~{CS4} (io), 49 PK7/~{CS5} (io), 52 PC0/T1IN/~{T1OUT}/~{DMA1REQ}/CINN (io), 53 PC1/T1OUT/~{DMA1ACK}/COMPOUT (io), 54 DBG (io), 55 PC6/T2IN/~{T2OUT}/PWMH0 (io), 56 PC7/T2OUT/PWML0 (io), 57 PG7/ADR15 (io), 59 PG6/ADR14 (io), 60 PG5/ADR13 (io), 61 PG4/ADR12 (io), 62 PG3/ADR11 (io), 64 PE7/DATA7 (io), 65 PE6/DATA6 (io), 66 PE5/DATA5 (io), 67 PG2/ADR10 (io), 68 PG1/ADR9 (io), 70 PG0/ADR8 (io), 71 PD7/PWML2/ADR23 (io), 72 PC3/SCK/~{DMA2REQ} (io), 73 PD6/~{CTS1}/ADR17 (io), 74 PA7/SDA/~{CS4} (io), 75 PA6/SCL/~{CS3} (io), 76 PA5/TXD0/~{CS2} (io), 77 PA4/RXD0/~{CS1} (io), 80 PJ7/DATA15 (io), 81 PJ6/DATA14 (io), 82 PJ5/DATA13 (io), 83 PJ4/DATA12 (io), 85 PC4/MOSI/~{DMA2ACK} (io), 86 PD5/TXD1/ADR19 (io), 87 PD4/RXD1/ADR18 (io), 88 PD3/DE1/ADR16 (io), 89 PC5/MISO/~{CS5} (io), 90 PF7/ADR7 (io), 93 PA3/~{CTS0}/~{FAULT0} (io), 94 PA2/DE0/~{FAULTY} (io), 95 PA1/T0OUT/~{DMA0ACK} (io), 97 PJ3/DATA11 (io), 98 PJ2/DATA10 (io), 99 PJ1/DATA9 (io), 100 PJ0/DATA8 (io)
part B pins: 6 VDD (power), 12 VSS (power), 16 VSS (power), 20 VDD (power), 25 VSS (power), 30 VDD (power), 31 AVDD (power), 44 VREF (power), 45 AVSS (power), 50 VDD (power), 51 VSS (power), 58 VDD (power), 63 VDD (power), 69 VSS (power), 78 VSS (power), 79 VDD (power), 84 VSS (power), 91 VDD (power), 92 VSS (power), 96 VDD (power)

## Z16F2811AL20SG
designator U?
Microcontroller, 16-Bit, ZNEO® Z16F Series, 20HMz, 128K Flash, 4K RAM, 76 IOs, 100-Pin LQFP, Standard Grade, Pb-Free; DatasheetVersion: rev08, Aug-2010; PackageVersion: 1/08/2010; PackageReference: LQFP100; PackageDescription: 100-Pin Low-Profile Quad Flat Pack, 14 x 14 mm Body, 0.5 mm Pitch (LQFP); ComponentLink1Description: Manufacturer URL; ComponentLink1URL: http://www.zilog.com/
footprint LQFP100_N (Thin QFP, 100-Leads, Body 14x14mm, Pitch 0.5mm, IPC Medium Density)
footprint LQFP100_L (Thin QFP, 100-Leads, Body 14x14mm, Pitch 0.5mm, IPC High Density)
footprint LQFP100_M (Thin QFP, 100-Leads, Body 14x14mm, Pitch 0.5mm, IPC Low Density)
part A pins: 1 PA0/T0IN/~{T0OUT}/~{DMA0REQ} (io), 2 PD2/PWMH2/ADR22 (io), 3 PC2/~{SS}/~{CS4} (io), 4 PF6/ADR6 (io), 5 ~{RESET} (io), 7 PF5/ADR5 (io), 8 PF4/ADR4 (io), 9 PF3/ADR3 (io), 10 PE4/DATA4 (io), 11 PE3/DATA3 (io), 13 PE2/DATA2 (io), 14 PE1/DATA1 (io), 15 PE0/DATA0 (io), 17 PF2/ADR2 (io), 18 PF1/ADR1 (io), 19 PF0/ADR0 (io), 21 PD1/PWML1/ADR21 (io), 22 PD0/PWMH1/ADR20 (io), 23 XOUT (out), 24 XIN (in), 26 PK3/~{CS1} (io), 27 PK2/~{CS0} (io), 28 PK1/~{BLEN} (io), 29 PK0/~{BHEN} (io), 32 PH0/ANA8/~{WR} (io), 33 PH1/ANA9/~{RD} (io), 34 PB0/ANA0/T0IN0 (io), 35 PB1/ANA1/T0IN1 (io), 36 PB4/ANA4 (io), 37 PB5/ANA5 (io), 38 PB6/ANA6/OPINP/CINN (io), 39 PB7/ANA7/OPINN (io), 40 PB3/ANA3/OPOUT (io), 41 PB2/ANA2/T0IN2 (io), 42 PH2/ANA10/~{CS0} (io), 43 PH3/ANA11/CPINP/~{WAIT} (io), 46 PK4/~{CS2} (io), 47 PK5/~{CS3} (io), 48 PK6/~{CS4} (io), 49 PK7/~{CS5} (io), 52 PC0/T1IN/~{T1OUT}/~{DMA1REQ}/CINN (io), 53 PC1/T1OUT/~{DMA1ACK}/COMPOUT (io), 54 DBG (io), 55 PC6/T2IN/~{T2OUT}/PWMH0 (io), 56 PC7/T2OUT/PWML0 (io), 57 PG7/ADR15 (io), 59 PG6/ADR14 (io), 60 PG5/ADR13 (io), 61 PG4/ADR12 (io), 62 PG3/ADR11 (io), 64 PE7/DATA7 (io), 65 PE6/DATA6 (io), 66 PE5/DATA5 (io), 67 PG2/ADR10 (io), 68 PG1/ADR9 (io), 70 PG0/ADR8 (io), 71 PD7/PWML2/ADR23 (io), 72 PC3/SCK/~{DMA2REQ} (io), 73 PD6/~{CTS1}/ADR17 (io), 74 PA7/SDA/~{CS4} (io), 75 PA6/SCL/~{CS3} (io), 76 PA5/TXD0/~{CS2} (io), 77 PA4/RXD0/~{CS1} (io), 80 PJ7/DATA15 (io), 81 PJ6/DATA14 (io), 82 PJ5/DATA13 (io), 83 PJ4/DATA12 (io), 85 PC4/MOSI/~{DMA2ACK} (io), 86 PD5/TXD1/ADR19 (io), 87 PD4/RXD1/ADR18 (io), 88 PD3/DE1/ADR16 (io), 89 PC5/MISO/~{CS5} (io), 90 PF7/ADR7 (io), 93 PA3/~{CTS0}/~{FAULT0} (io), 94 PA2/DE0/~{FAULTY} (io), 95 PA1/T0OUT/~{DMA0ACK} (io), 97 PJ3/DATA11 (io), 98 PJ2/DATA10 (io), 99 PJ1/DATA9 (io), 100 PJ0/DATA8 (io)
part B pins: 6 VDD (power), 12 VSS (power), 16 VSS (power), 20 VDD (power), 25 VSS (power), 30 VDD (power), 31 AVDD (power), 44 VREF (power), 45 AVSS (power), 50 VDD (power), 51 VSS (power), 58 VDD (power), 63 VDD (power), 69 VSS (power), 78 VSS (power), 79 VDD (power), 84 VSS (power), 91 VDD (power), 92 VSS (power), 96 VDD (power)

## Z16F2811FI20AG
designator U?
Microcontroller, 16-Bit, ZNEO® Z16F Series, 20HMz, 128K Flash, 4K RAM, 60 IOs, 80-Pin QFP, Automotive Grade, Pb-Free; DatasheetVersion: rev08, Aug-2010; PackageVersion: 1/08/2010; PackageReference: RQFP80; PackageDescription: 80-Pin Quad Flat Pack Rectangular 0.8 mm Pitch (QFP); ComponentLink1Description: Manufacturer URL; ComponentLink1URL: http://www.zilog.com/
footprint RQFP80_N (QFP, 80-Leads, Body 20x14mm, Pitch 0.8mm, IPC Medium Density)
footprint RQFP80_L (QFP, 80-Leads, Body 20x14mm, Pitch 0.8mm, IPC High Density)
footprint RQFP80_M (QFP, 80-Leads, Body 20x14mm, Pitch 0.8mm, IPC Low Density)
part A pins: 1 PA0/T0IN/~{T0OUT}/~{DMA0REQ} (io), 2 PD2/PWMH2/ADR22 (io), 3 PC2/~{SS}/~{CS4} (io), 4 PF6/ADR6 (io), 5 ~{RESET} (io), 7 PF5/ADR5 (io), 8 PF4/ADR4 (io), 9 PF3/ADR3 (io), 10 PE4/DATA4 (io), 11 PE3/DATA3 (io), 13 PE2/DATA2 (io), 14 PE1/DATA1 (io), 15 PE0/DATA0 (io), 17 PF2/ADR2 (io), 18 PF1/ADR1 (io), 19 PF0/ADR0 (io), 21 PD1/PWML1/ADR21 (io), 22 PD0/PWMH1/ADR20 (io), 23 XOUT (out), 24 XIN (in), 27 PH0/ANA8/~{WR} (io), 28 PH1/ANA9/~{RD} (io), 29 PB0/ANA0/T0IN0 (io), 30 PB1/ANA1/T0IN1 (io), 31 PB4/ANA4 (io), 32 PB5/ANA5 (io), 33 PB6/ANA6/OPINP/CINN (io), 34 PB7/ANA7/OPINN (io), 35 PB3/ANA3/OPOUT (io), 36 PB2/ANA2/T0IN2 (io), 37 PH2/ANA10/~{CS0} (io), 38 PH3/ANA11/CPINP/~{WAIT} (io), 42 PC0/T1IN/~{T1OUT}/~{DMA1REQ}/CINN (io), 43 PC1/T1OUT/~{DMA1ACK}/COMPOUT (io), 44 DBG (io), 45 PC6/T2IN/~{T2OUT}/PWMH0 (io), 46 PC7/T2OUT/PWML0 (io), 47 PG7/ADR15 (io), 49 PG6/ADR14 (io), 50 PG5/ADR13 (io), 51 PG4/ADR12 (io), 52 PG3/ADR11 (io), 54 PE7/DATA7 (io), 55 PE6/DATA6 (io), 56 PE5/DATA5 (io), 57 PG2/ADR10 (io), 58 PG1/ADR9 (io), 60 PG0/ADR8 (io), 61 PD7/PWML2/ADR23 (io), 62 PC3/SCK/~{DMA2REQ} (io), 63 PD6/~{CTS1}/ADR17 (io), 64 PA7/SDA/~{CS4} (io), 65 PA6/SCL (io), 66 PA5/TXD0/~{CS2} (io), 67 PA4/RXD0/~{CS1} (io), 70 PC4/MOSI/~{DMA2ACK} (io), 71 PD5/TXD1/ADR19 (io), 72 PD4/RXD1/ADR18 (io), 73 PD3/DE1/ADR16 (io), 74 PC5/MISO/~{CS5} (io), 75 PF7/ADR7 (io), 78 PA3/~{CTS0}/~{FAULT0} (io), 79 PA2/DE0/~{FAULTY} (io), 80 PA1/T0OUT/~{DMA0ACK} (io)
part B pins: 6 VDD (power), 12 VSS (power), 16 VSS (power), 20 VDD (power), 25 VSS (power), 26 AVDD (power), 39 VREF (power), 40 AVSS (power), 41 VSS (power), 48 VDD (power), 53 VDD (power), 59 VSS (power), 68 VSS (power), 69 VDD (power), 76 VDD (power), 77 VSS (power)

## Z16F2811FI20EG
designator U?
Microcontroller, 16-Bit, ZNEO® Z16F Series, 20HMz, 128K Flash, 4K RAM, 60 IOs, 80-Pin QFP, Extended Grade, Pb-Free; DatasheetVersion: rev08, Aug-2010; PackageVersion: 1/08/2010; PackageReference: RQFP80; PackageDescription: 80-Pin Quad Flat Pack Rectangular 0.8 mm Pitch (QFP); ComponentLink1Description: Manufacturer URL; ComponentLink1URL: http://www.zilog.com/
footprint RQFP80_N (QFP, 80-Leads, Body 20x14mm, Pitch 0.8mm, IPC Medium Density)
footprint RQFP80_L (QFP, 80-Leads, Body 20x14mm, Pitch 0.8mm, IPC High Density)
footprint RQFP80_M (QFP, 80-Leads, Body 20x14mm, Pitch 0.8mm, IPC Low Density)
part A pins: 1 PA0/T0IN/~{T0OUT}/~{DMA0REQ} (io), 2 PD2/PWMH2/ADR22 (io), 3 PC2/~{SS}/~{CS4} (io), 4 PF6/ADR6 (io), 5 ~{RESET} (io), 7 PF5/ADR5 (io), 8 PF4/ADR4 (io), 9 PF3/ADR3 (io), 10 PE4/DATA4 (io), 11 PE3/DATA3 (io), 13 PE2/DATA2 (io), 14 PE1/DATA1 (io), 15 PE0/DATA0 (io), 17 PF2/ADR2 (io), 18 PF1/ADR1 (io), 19 PF0/ADR0 (io), 21 PD1/PWML1/ADR21 (io), 22 PD0/PWMH1/ADR20 (io), 23 XOUT (out), 24 XIN (in), 27 PH0/ANA8/~{WR} (io), 28 PH1/ANA9/~{RD} (io), 29 PB0/ANA0/T0IN0 (io), 30 PB1/ANA1/T0IN1 (io), 31 PB4/ANA4 (io), 32 PB5/ANA5 (io), 33 PB6/ANA6/OPINP/CINN (io), 34 PB7/ANA7/OPINN (io), 35 PB3/ANA3/OPOUT (io), 36 PB2/ANA2/T0IN2 (io), 37 PH2/ANA10/~{CS0} (io), 38 PH3/ANA11/CPINP/~{WAIT} (io), 42 PC0/T1IN/~{T1OUT}/~{DMA1REQ}/CINN (io), 43 PC1/T1OUT/~{DMA1ACK}/COMPOUT (io), 44 DBG (io), 45 PC6/T2IN/~{T2OUT}/PWMH0 (io), 46 PC7/T2OUT/PWML0 (io), 47 PG7/ADR15 (io), 49 PG6/ADR14 (io), 50 PG5/ADR13 (io), 51 PG4/ADR12 (io), 52 PG3/ADR11 (io), 54 PE7/DATA7 (io), 55 PE6/DATA6 (io), 56 PE5/DATA5 (io), 57 PG2/ADR10 (io), 58 PG1/ADR9 (io), 60 PG0/ADR8 (io), 61 PD7/PWML2/ADR23 (io), 62 PC3/SCK/~{DMA2REQ} (io), 63 PD6/~{CTS1}/ADR17 (io), 64 PA7/SDA/~{CS4} (io), 65 PA6/SCL (io), 66 PA5/TXD0/~{CS2} (io), 67 PA4/RXD0/~{CS1} (io), 70 PC4/MOSI/~{DMA2ACK} (io), 71 PD5/TXD1/ADR19 (io), 72 PD4/RXD1/ADR18 (io), 73 PD3/DE1/ADR16 (io), 74 PC5/MISO/~{CS5} (io), 75 PF7/ADR7 (io), 78 PA3/~{CTS0}/~{FAULT0} (io), 79 PA2/DE0/~{FAULTY} (io), 80 PA1/T0OUT/~{DMA0ACK} (io)
part B pins: 6 VDD (power), 12 VSS (power), 16 VSS (power), 20 VDD (power), 25 VSS (power), 26 AVDD (power), 39 VREF (power), 40 AVSS (power), 41 VSS (power), 48 VDD (power), 53 VDD (power), 59 VSS (power), 68 VSS (power), 69 VDD (power), 76 VDD (power), 77 VSS (power)

## Z16F2811FI20SG
designator U?
Microcontroller, 16-Bit, ZNEO® Z16F Series, 20HMz, 128K Flash, 4K RAM, 60 IOs, 80-Pin QFP, Standard Grade, Pb-Free; DatasheetVersion: rev08, Aug-2010; PackageVersion: 1/08/2010; PackageReference: RQFP80; PackageDescription: 80-Pin Quad Flat Pack Rectangular 0.8 mm Pitch (QFP); ComponentLink1Description: Manufacturer URL; ComponentLink1URL: http://www.zilog.com/
footprint RQFP80_N (QFP, 80-Leads, Body 20x14mm, Pitch 0.8mm, IPC Medium Density)
footprint RQFP80_L (QFP, 80-Leads, Body 20x14mm, Pitch 0.8mm, IPC High Density)
footprint RQFP80_M (QFP, 80-Leads, Body 20x14mm, Pitch 0.8mm, IPC Low Density)
part A pins: 1 PA0/T0IN/~{T0OUT}/~{DMA0REQ} (io), 2 PD2/PWMH2/ADR22 (io), 3 PC2/~{SS}/~{CS4} (io), 4 PF6/ADR6 (io), 5 ~{RESET} (io), 7 PF5/ADR5 (io), 8 PF4/ADR4 (io), 9 PF3/ADR3 (io), 10 PE4/DATA4 (io), 11 PE3/DATA3 (io), 13 PE2/DATA2 (io), 14 PE1/DATA1 (io), 15 PE0/DATA0 (io), 17 PF2/ADR2 (io), 18 PF1/ADR1 (io), 19 PF0/ADR0 (io), 21 PD1/PWML1/ADR21 (io), 22 PD0/PWMH1/ADR20 (io), 23 XOUT (out), 24 XIN (in), 27 PH0/ANA8/~{WR} (io), 28 PH1/ANA9/~{RD} (io), 29 PB0/ANA0/T0IN0 (io), 30 PB1/ANA1/T0IN1 (io), 31 PB4/ANA4 (io), 32 PB5/ANA5 (io), 33 PB6/ANA6/OPINP/CINN (io), 34 PB7/ANA7/OPINN (io), 35 PB3/ANA3/OPOUT (io), 36 PB2/ANA2/T0IN2 (io), 37 PH2/ANA10/~{CS0} (io), 38 PH3/ANA11/CPINP/~{WAIT} (io), 42 PC0/T1IN/~{T1OUT}/~{DMA1REQ}/CINN (io), 43 PC1/T1OUT/~{DMA1ACK}/COMPOUT (io), 44 DBG (io), 45 PC6/T2IN/~{T2OUT}/PWMH0 (io), 46 PC7/T2OUT/PWML0 (io), 47 PG7/ADR15 (io), 49 PG6/ADR14 (io), 50 PG5/ADR13 (io), 51 PG4/ADR12 (io), 52 PG3/ADR11 (io), 54 PE7/DATA7 (io), 55 PE6/DATA6 (io), 56 PE5/DATA5 (io), 57 PG2/ADR10 (io), 58 PG1/ADR9 (io), 60 PG0/ADR8 (io), 61 PD7/PWML2/ADR23 (io), 62 PC3/SCK/~{DMA2REQ} (io), 63 PD6/~{CTS1}/ADR17 (io), 64 PA7/SDA/~{CS4} (io), 65 PA6/SCL (io), 66 PA5/TXD0/~{CS2} (io), 67 PA4/RXD0/~{CS1} (io), 70 PC4/MOSI/~{DMA2ACK} (io), 71 PD5/TXD1/ADR19 (io), 72 PD4/RXD1/ADR18 (io), 73 PD3/DE1/ADR16 (io), 74 PC5/MISO/~{CS5} (io), 75 PF7/ADR7 (io), 78 PA3/~{CTS0}/~{FAULT0} (io), 79 PA2/DE0/~{FAULTY} (io), 80 PA1/T0OUT/~{DMA0ACK} (io)
part B pins: 6 VDD (power), 12 VSS (power), 16 VSS (power), 20 VDD (power), 25 VSS (power), 26 AVDD (power), 39 VREF (power), 40 AVSS (power), 41 VSS (power), 48 VDD (power), 53 VDD (power), 59 VSS (power), 68 VSS (power), 69 VDD (power), 76 VDD (power), 77 VSS (power)

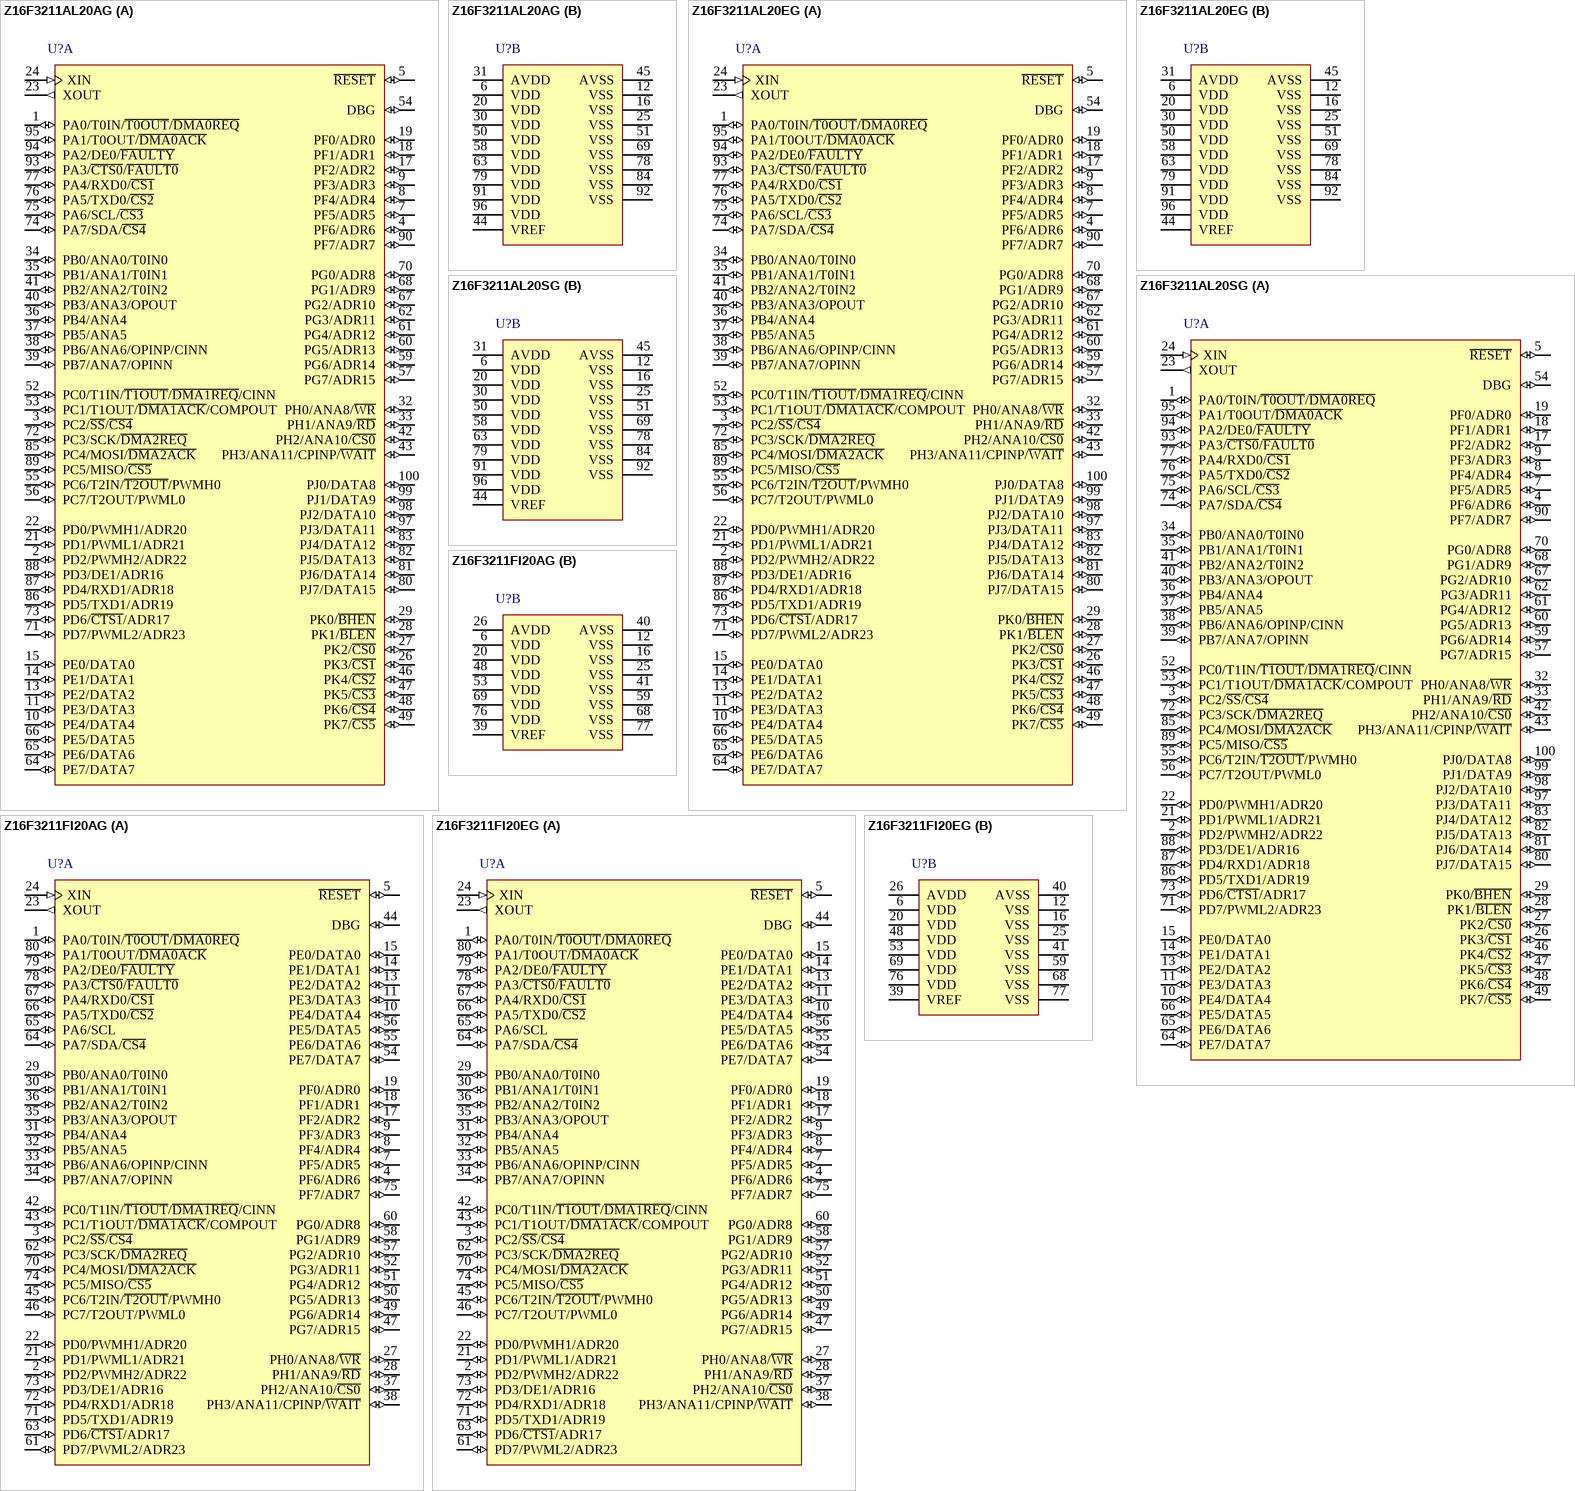
[diagram p3: symbols Z16F3211AL20AG to Z16F3211FI20EG]

## Z16F3211AL20AG
designator U?
Microcontroller, 16-Bit, ZNEO® Z16F Series, 20HMz, 32K Flash, 2K RAM, 76 IOs, 100-Pin LQFP, Automotive Grade, Pb-Free; DatasheetVersion: rev08, Aug-2010; PackageVersion: 1/08/2010; PackageReference: LQFP100; PackageDescription: 100-Pin Low-Profile Quad Flat Pack, 14 x 14 mm Body, 0.5 mm Pitch (LQFP); ComponentLink1Description: Manufacturer URL; ComponentLink1URL: http://www.zilog.com/
footprint LQFP100_N (Thin QFP, 100-Leads, Body 14x14mm, Pitch 0.5mm, IPC Medium Density)
footprint LQFP100_L (Thin QFP, 100-Leads, Body 14x14mm, Pitch 0.5mm, IPC High Density)
footprint LQFP100_M (Thin QFP, 100-Leads, Body 14x14mm, Pitch 0.5mm, IPC Low Density)
part A pins: 1 PA0/T0IN/~{T0OUT}/~{DMA0REQ} (io), 2 PD2/PWMH2/ADR22 (io), 3 PC2/~{SS}/~{CS4} (io), 4 PF6/ADR6 (io), 5 ~{RESET} (io), 7 PF5/ADR5 (io), 8 PF4/ADR4 (io), 9 PF3/ADR3 (io), 10 PE4/DATA4 (io), 11 PE3/DATA3 (io), 13 PE2/DATA2 (io), 14 PE1/DATA1 (io), 15 PE0/DATA0 (io), 17 PF2/ADR2 (io), 18 PF1/ADR1 (io), 19 PF0/ADR0 (io), 21 PD1/PWML1/ADR21 (io), 22 PD0/PWMH1/ADR20 (io), 23 XOUT (out), 24 XIN (in), 26 PK3/~{CS1} (io), 27 PK2/~{CS0} (io), 28 PK1/~{BLEN} (io), 29 PK0/~{BHEN} (io), 32 PH0/ANA8/~{WR} (io), 33 PH1/ANA9/~{RD} (io), 34 PB0/ANA0/T0IN0 (io), 35 PB1/ANA1/T0IN1 (io), 36 PB4/ANA4 (io), 37 PB5/ANA5 (io), 38 PB6/ANA6/OPINP/CINN (io), 39 PB7/ANA7/OPINN (io), 40 PB3/ANA3/OPOUT (io), 41 PB2/ANA2/T0IN2 (io), 42 PH2/ANA10/~{CS0} (io), 43 PH3/ANA11/CPINP/~{WAIT} (io), 46 PK4/~{CS2} (io), 47 PK5/~{CS3} (io), 48 PK6/~{CS4} (io), 49 PK7/~{CS5} (io), 52 PC0/T1IN/~{T1OUT}/~{DMA1REQ}/CINN (io), 53 PC1/T1OUT/~{DMA1ACK}/COMPOUT (io), 54 DBG (io), 55 PC6/T2IN/~{T2OUT}/PWMH0 (io), 56 PC7/T2OUT/PWML0 (io), 57 PG7/ADR15 (io), 59 PG6/ADR14 (io), 60 PG5/ADR13 (io), 61 PG4/ADR12 (io), 62 PG3/ADR11 (io), 64 PE7/DATA7 (io), 65 PE6/DATA6 (io), 66 PE5/DATA5 (io), 67 PG2/ADR10 (io), 68 PG1/ADR9 (io), 70 PG0/ADR8 (io), 71 PD7/PWML2/ADR23 (io), 72 PC3/SCK/~{DMA2REQ} (io), 73 PD6/~{CTS1}/ADR17 (io), 74 PA7/SDA/~{CS4} (io), 75 PA6/SCL/~{CS3} (io), 76 PA5/TXD0/~{CS2} (io), 77 PA4/RXD0/~{CS1} (io), 80 PJ7/DATA15 (io), 81 PJ6/DATA14 (io), 82 PJ5/DATA13 (io), 83 PJ4/DATA12 (io), 85 PC4/MOSI/~{DMA2ACK} (io), 86 PD5/TXD1/ADR19 (io), 87 PD4/RXD1/ADR18 (io), 88 PD3/DE1/ADR16 (io), 89 PC5/MISO/~{CS5} (io), 90 PF7/ADR7 (io), 93 PA3/~{CTS0}/~{FAULT0} (io), 94 PA2/DE0/~{FAULTY} (io), 95 PA1/T0OUT/~{DMA0ACK} (io), 97 PJ3/DATA11 (io), 98 PJ2/DATA10 (io), 99 PJ1/DATA9 (io), 100 PJ0/DATA8 (io)
part B pins: 6 VDD (power), 12 VSS (power), 16 VSS (power), 20 VDD (power), 25 VSS (power), 30 VDD (power), 31 AVDD (power), 44 VREF (power), 45 AVSS (power), 50 VDD (power), 51 VSS (power), 58 VDD (power), 63 VDD (power), 69 VSS (power), 78 VSS (power), 79 VDD (power), 84 VSS (power), 91 VDD (power), 92 VSS (power), 96 VDD (power)

## Z16F3211AL20EG
designator U?
Microcontroller, 16-Bit, ZNEO® Z16F Series, 20HMz, 32K Flash, 2K RAM, 76 IOs, 100-Pin LQFP, Extended Grade, Pb-Free; DatasheetVersion: rev08, Aug-2010; PackageVersion: 1/08/2010; PackageReference: LQFP100; PackageDescription: 100-Pin Low-Profile Quad Flat Pack, 14 x 14 mm Body, 0.5 mm Pitch (LQFP); ComponentLink1Description: Manufacturer URL; ComponentLink1URL: http://www.zilog.com/
footprint LQFP100_N (Thin QFP, 100-Leads, Body 14x14mm, Pitch 0.5mm, IPC Medium Density)
footprint LQFP100_L (Thin QFP, 100-Leads, Body 14x14mm, Pitch 0.5mm, IPC High Density)
footprint LQFP100_M (Thin QFP, 100-Leads, Body 14x14mm, Pitch 0.5mm, IPC Low Density)
part A pins: 1 PA0/T0IN/~{T0OUT}/~{DMA0REQ} (io), 2 PD2/PWMH2/ADR22 (io), 3 PC2/~{SS}/~{CS4} (io), 4 PF6/ADR6 (io), 5 ~{RESET} (io), 7 PF5/ADR5 (io), 8 PF4/ADR4 (io), 9 PF3/ADR3 (io), 10 PE4/DATA4 (io), 11 PE3/DATA3 (io), 13 PE2/DATA2 (io), 14 PE1/DATA1 (io), 15 PE0/DATA0 (io), 17 PF2/ADR2 (io), 18 PF1/ADR1 (io), 19 PF0/ADR0 (io), 21 PD1/PWML1/ADR21 (io), 22 PD0/PWMH1/ADR20 (io), 23 XOUT (out), 24 XIN (in), 26 PK3/~{CS1} (io), 27 PK2/~{CS0} (io), 28 PK1/~{BLEN} (io), 29 PK0/~{BHEN} (io), 32 PH0/ANA8/~{WR} (io), 33 PH1/ANA9/~{RD} (io), 34 PB0/ANA0/T0IN0 (io), 35 PB1/ANA1/T0IN1 (io), 36 PB4/ANA4 (io), 37 PB5/ANA5 (io), 38 PB6/ANA6/OPINP/CINN (io), 39 PB7/ANA7/OPINN (io), 40 PB3/ANA3/OPOUT (io), 41 PB2/ANA2/T0IN2 (io), 42 PH2/ANA10/~{CS0} (io), 43 PH3/ANA11/CPINP/~{WAIT} (io), 46 PK4/~{CS2} (io), 47 PK5/~{CS3} (io), 48 PK6/~{CS4} (io), 49 PK7/~{CS5} (io), 52 PC0/T1IN/~{T1OUT}/~{DMA1REQ}/CINN (io), 53 PC1/T1OUT/~{DMA1ACK}/COMPOUT (io), 54 DBG (io), 55 PC6/T2IN/~{T2OUT}/PWMH0 (io), 56 PC7/T2OUT/PWML0 (io), 57 PG7/ADR15 (io), 59 PG6/ADR14 (io), 60 PG5/ADR13 (io), 61 PG4/ADR12 (io), 62 PG3/ADR11 (io), 64 PE7/DATA7 (io), 65 PE6/DATA6 (io), 66 PE5/DATA5 (io), 67 PG2/ADR10 (io), 68 PG1/ADR9 (io), 70 PG0/ADR8 (io), 71 PD7/PWML2/ADR23 (io), 72 PC3/SCK/~{DMA2REQ} (io), 73 PD6/~{CTS1}/ADR17 (io), 74 PA7/SDA/~{CS4} (io), 75 PA6/SCL/~{CS3} (io), 76 PA5/TXD0/~{CS2} (io), 77 PA4/RXD0/~{CS1} (io), 80 PJ7/DATA15 (io), 81 PJ6/DATA14 (io), 82 PJ5/DATA13 (io), 83 PJ4/DATA12 (io), 85 PC4/MOSI/~{DMA2ACK} (io), 86 PD5/TXD1/ADR19 (io), 87 PD4/RXD1/ADR18 (io), 88 PD3/DE1/ADR16 (io), 89 PC5/MISO/~{CS5} (io), 90 PF7/ADR7 (io), 93 PA3/~{CTS0}/~{FAULT0} (io), 94 PA2/DE0/~{FAULTY} (io), 95 PA1/T0OUT/~{DMA0ACK} (io), 97 PJ3/DATA11 (io), 98 PJ2/DATA10 (io), 99 PJ1/DATA9 (io), 100 PJ0/DATA8 (io)
part B pins: 6 VDD (power), 12 VSS (power), 16 VSS (power), 20 VDD (power), 25 VSS (power), 30 VDD (power), 31 AVDD (power), 44 VREF (power), 45 AVSS (power), 50 VDD (power), 51 VSS (power), 58 VDD (power), 63 VDD (power), 69 VSS (power), 78 VSS (power), 79 VDD (power), 84 VSS (power), 91 VDD (power), 92 VSS (power), 96 VDD (power)

## Z16F3211AL20SG
designator U?
Microcontroller, 16-Bit, ZNEO® Z16F Series, 20HMz, 32K Flash, 2K RAM, 76 IOs, 100-Pin LQFP, Standard Grade, Pb-Free; DatasheetVersion: rev08, Aug-2010; PackageVersion: 1/08/2010; PackageReference: LQFP100; PackageDescription: 100-Pin Low-Profile Quad Flat Pack, 14 x 14 mm Body, 0.5 mm Pitch (LQFP); ComponentLink1Description: Manufacturer URL; ComponentLink1URL: http://www.zilog.com/
footprint LQFP100_N (Thin QFP, 100-Leads, Body 14x14mm, Pitch 0.5mm, IPC Medium Density)
footprint LQFP100_L (Thin QFP, 100-Leads, Body 14x14mm, Pitch 0.5mm, IPC High Density)
footprint LQFP100_M (Thin QFP, 100-Leads, Body 14x14mm, Pitch 0.5mm, IPC Low Density)
part A pins: 1 PA0/T0IN/~{T0OUT}/~{DMA0REQ} (io), 2 PD2/PWMH2/ADR22 (io), 3 PC2/~{SS}/~{CS4} (io), 4 PF6/ADR6 (io), 5 ~{RESET} (io), 7 PF5/ADR5 (io), 8 PF4/ADR4 (io), 9 PF3/ADR3 (io), 10 PE4/DATA4 (io), 11 PE3/DATA3 (io), 13 PE2/DATA2 (io), 14 PE1/DATA1 (io), 15 PE0/DATA0 (io), 17 PF2/ADR2 (io), 18 PF1/ADR1 (io), 19 PF0/ADR0 (io), 21 PD1/PWML1/ADR21 (io), 22 PD0/PWMH1/ADR20 (io), 23 XOUT (out), 24 XIN (in), 26 PK3/~{CS1} (io), 27 PK2/~{CS0} (io), 28 PK1/~{BLEN} (io), 29 PK0/~{BHEN} (io), 32 PH0/ANA8/~{WR} (io), 33 PH1/ANA9/~{RD} (io), 34 PB0/ANA0/T0IN0 (io), 35 PB1/ANA1/T0IN1 (io), 36 PB4/ANA4 (io), 37 PB5/ANA5 (io), 38 PB6/ANA6/OPINP/CINN (io), 39 PB7/ANA7/OPINN (io), 40 PB3/ANA3/OPOUT (io), 41 PB2/ANA2/T0IN2 (io), 42 PH2/ANA10/~{CS0} (io), 43 PH3/ANA11/CPINP/~{WAIT} (io), 46 PK4/~{CS2} (io), 47 PK5/~{CS3} (io), 48 PK6/~{CS4} (io), 49 PK7/~{CS5} (io), 52 PC0/T1IN/~{T1OUT}/~{DMA1REQ}/CINN (io), 53 PC1/T1OUT/~{DMA1ACK}/COMPOUT (io), 54 DBG (io), 55 PC6/T2IN/~{T2OUT}/PWMH0 (io), 56 PC7/T2OUT/PWML0 (io), 57 PG7/ADR15 (io), 59 PG6/ADR14 (io), 60 PG5/ADR13 (io), 61 PG4/ADR12 (io), 62 PG3/ADR11 (io), 64 PE7/DATA7 (io), 65 PE6/DATA6 (io), 66 PE5/DATA5 (io), 67 PG2/ADR10 (io), 68 PG1/ADR9 (io), 70 PG0/ADR8 (io), 71 PD7/PWML2/ADR23 (io), 72 PC3/SCK/~{DMA2REQ} (io), 73 PD6/~{CTS1}/ADR17 (io), 74 PA7/SDA/~{CS4} (io), 75 PA6/SCL/~{CS3} (io), 76 PA5/TXD0/~{CS2} (io), 77 PA4/RXD0/~{CS1} (io), 80 PJ7/DATA15 (io), 81 PJ6/DATA14 (io), 82 PJ5/DATA13 (io), 83 PJ4/DATA12 (io), 85 PC4/MOSI/~{DMA2ACK} (io), 86 PD5/TXD1/ADR19 (io), 87 PD4/RXD1/ADR18 (io), 88 PD3/DE1/ADR16 (io), 89 PC5/MISO/~{CS5} (io), 90 PF7/ADR7 (io), 93 PA3/~{CTS0}/~{FAULT0} (io), 94 PA2/DE0/~{FAULTY} (io), 95 PA1/T0OUT/~{DMA0ACK} (io), 97 PJ3/DATA11 (io), 98 PJ2/DATA10 (io), 99 PJ1/DATA9 (io), 100 PJ0/DATA8 (io)
part B pins: 6 VDD (power), 12 VSS (power), 16 VSS (power), 20 VDD (power), 25 VSS (power), 30 VDD (power), 31 AVDD (power), 44 VREF (power), 45 AVSS (power), 50 VDD (power), 51 VSS (power), 58 VDD (power), 63 VDD (power), 69 VSS (power), 78 VSS (power), 79 VDD (power), 84 VSS (power), 91 VDD (power), 92 VSS (power), 96 VDD (power)

## Z16F3211FI20AG
designator U?
Microcontroller, 16-Bit, ZNEO® Z16F Series, 20HMz, 32K Flash, 2K RAM, 60 IOs, 80-Pin QFP, Automotive Grade, Pb-Free; DatasheetVersion: rev08, Aug-2010; PackageVersion: 1/08/2010; PackageReference: RQFP80; PackageDescription: 80-Pin Quad Flat Pack Rectangular 0.8 mm Pitch (QFP); ComponentLink1Description: Manufacturer URL; ComponentLink1URL: http://www.zilog.com/
footprint RQFP80_N (QFP, 80-Leads, Body 20x14mm, Pitch 0.8mm, IPC Medium Density)
footprint RQFP80_L (QFP, 80-Leads, Body 20x14mm, Pitch 0.8mm, IPC High Density)
footprint RQFP80_M (QFP, 80-Leads, Body 20x14mm, Pitch 0.8mm, IPC Low Density)
part A pins: 1 PA0/T0IN/~{T0OUT}/~{DMA0REQ} (io), 2 PD2/PWMH2/ADR22 (io), 3 PC2/~{SS}/~{CS4} (io), 4 PF6/ADR6 (io), 5 ~{RESET} (io), 7 PF5/ADR5 (io), 8 PF4/ADR4 (io), 9 PF3/ADR3 (io), 10 PE4/DATA4 (io), 11 PE3/DATA3 (io), 13 PE2/DATA2 (io), 14 PE1/DATA1 (io), 15 PE0/DATA0 (io), 17 PF2/ADR2 (io), 18 PF1/ADR1 (io), 19 PF0/ADR0 (io), 21 PD1/PWML1/ADR21 (io), 22 PD0/PWMH1/ADR20 (io), 23 XOUT (out), 24 XIN (in), 27 PH0/ANA8/~{WR} (io), 28 PH1/ANA9/~{RD} (io), 29 PB0/ANA0/T0IN0 (io), 30 PB1/ANA1/T0IN1 (io), 31 PB4/ANA4 (io), 32 PB5/ANA5 (io), 33 PB6/ANA6/OPINP/CINN (io), 34 PB7/ANA7/OPINN (io), 35 PB3/ANA3/OPOUT (io), 36 PB2/ANA2/T0IN2 (io), 37 PH2/ANA10/~{CS0} (io), 38 PH3/ANA11/CPINP/~{WAIT} (io), 42 PC0/T1IN/~{T1OUT}/~{DMA1REQ}/CINN (io), 43 PC1/T1OUT/~{DMA1ACK}/COMPOUT (io), 44 DBG (io), 45 PC6/T2IN/~{T2OUT}/PWMH0 (io), 46 PC7/T2OUT/PWML0 (io), 47 PG7/ADR15 (io), 49 PG6/ADR14 (io), 50 PG5/ADR13 (io), 51 PG4/ADR12 (io), 52 PG3/ADR11 (io), 54 PE7/DATA7 (io), 55 PE6/DATA6 (io), 56 PE5/DATA5 (io), 57 PG2/ADR10 (io), 58 PG1/ADR9 (io), 60 PG0/ADR8 (io), 61 PD7/PWML2/ADR23 (io), 62 PC3/SCK/~{DMA2REQ} (io), 63 PD6/~{CTS1}/ADR17 (io), 64 PA7/SDA/~{CS4} (io), 65 PA6/SCL (io), 66 PA5/TXD0/~{CS2} (io), 67 PA4/RXD0/~{CS1} (io), 70 PC4/MOSI/~{DMA2ACK} (io), 71 PD5/TXD1/ADR19 (io), 72 PD4/RXD1/ADR18 (io), 73 PD3/DE1/ADR16 (io), 74 PC5/MISO/~{CS5} (io), 75 PF7/ADR7 (io), 78 PA3/~{CTS0}/~{FAULT0} (io), 79 PA2/DE0/~{FAULTY} (io), 80 PA1/T0OUT/~{DMA0ACK} (io)
part B pins: 6 VDD (power), 12 VSS (power), 16 VSS (power), 20 VDD (power), 25 VSS (power), 26 AVDD (power), 39 VREF (power), 40 AVSS (power), 41 VSS (power), 48 VDD (power), 53 VDD (power), 59 VSS (power), 68 VSS (power), 69 VDD (power), 76 VDD (power), 77 VSS (power)

## Z16F3211FI20EG
designator U?
Microcontroller, 16-Bit, ZNEO® Z16F Series, 20HMz, 32K Flash, 2K RAM, 60 IOs, 80-Pin QFP, Extended Grade, Pb-Free; DatasheetVersion: rev08, Aug-2010; PackageVersion: 1/08/2010; PackageReference: RQFP80; PackageDescription: 80-Pin Quad Flat Pack Rectangular 0.8 mm Pitch (QFP); ComponentLink1Description: Manufacturer URL; ComponentLink1URL: http://www.zilog.com/
footprint RQFP80_N (QFP, 80-Leads, Body 20x14mm, Pitch 0.8mm, IPC Medium Density)
footprint RQFP80_L (QFP, 80-Leads, Body 20x14mm, Pitch 0.8mm, IPC High Density)
footprint RQFP80_M (QFP, 80-Leads, Body 20x14mm, Pitch 0.8mm, IPC Low Density)
part A pins: 1 PA0/T0IN/~{T0OUT}/~{DMA0REQ} (io), 2 PD2/PWMH2/ADR22 (io), 3 PC2/~{SS}/~{CS4} (io), 4 PF6/ADR6 (io), 5 ~{RESET} (io), 7 PF5/ADR5 (io), 8 PF4/ADR4 (io), 9 PF3/ADR3 (io), 10 PE4/DATA4 (io), 11 PE3/DATA3 (io), 13 PE2/DATA2 (io), 14 PE1/DATA1 (io), 15 PE0/DATA0 (io), 17 PF2/ADR2 (io), 18 PF1/ADR1 (io), 19 PF0/ADR0 (io), 21 PD1/PWML1/ADR21 (io), 22 PD0/PWMH1/ADR20 (io), 23 XOUT (out), 24 XIN (in), 27 PH0/ANA8/~{WR} (io), 28 PH1/ANA9/~{RD} (io), 29 PB0/ANA0/T0IN0 (io), 30 PB1/ANA1/T0IN1 (io), 31 PB4/ANA4 (io), 32 PB5/ANA5 (io), 33 PB6/ANA6/OPINP/CINN (io), 34 PB7/ANA7/OPINN (io), 35 PB3/ANA3/OPOUT (io), 36 PB2/ANA2/T0IN2 (io), 37 PH2/ANA10/~{CS0} (io), 38 PH3/ANA11/CPINP/~{WAIT} (io), 42 PC0/T1IN/~{T1OUT}/~{DMA1REQ}/CINN (io), 43 PC1/T1OUT/~{DMA1ACK}/COMPOUT (io), 44 DBG (io), 45 PC6/T2IN/~{T2OUT}/PWMH0 (io), 46 PC7/T2OUT/PWML0 (io), 47 PG7/ADR15 (io), 49 PG6/ADR14 (io), 50 PG5/ADR13 (io), 51 PG4/ADR12 (io), 52 PG3/ADR11 (io), 54 PE7/DATA7 (io), 55 PE6/DATA6 (io), 56 PE5/DATA5 (io), 57 PG2/ADR10 (io), 58 PG1/ADR9 (io), 60 PG0/ADR8 (io), 61 PD7/PWML2/ADR23 (io), 62 PC3/SCK/~{DMA2REQ} (io), 63 PD6/~{CTS1}/ADR17 (io), 64 PA7/SDA/~{CS4} (io), 65 PA6/SCL (io), 66 PA5/TXD0/~{CS2} (io), 67 PA4/RXD0/~{CS1} (io), 70 PC4/MOSI/~{DMA2ACK} (io), 71 PD5/TXD1/ADR19 (io), 72 PD4/RXD1/ADR18 (io), 73 PD3/DE1/ADR16 (io), 74 PC5/MISO/~{CS5} (io), 75 PF7/ADR7 (io), 78 PA3/~{CTS0}/~{FAULT0} (io), 79 PA2/DE0/~{FAULTY} (io), 80 PA1/T0OUT/~{DMA0ACK} (io)
part B pins: 6 VDD (power), 12 VSS (power), 16 VSS (power), 20 VDD (power), 25 VSS (power), 26 AVDD (power), 39 VREF (power), 40 AVSS (power), 41 VSS (power), 48 VDD (power), 53 VDD (power), 59 VSS (power), 68 VSS (power), 69 VDD (power), 76 VDD (power), 77 VSS (power)

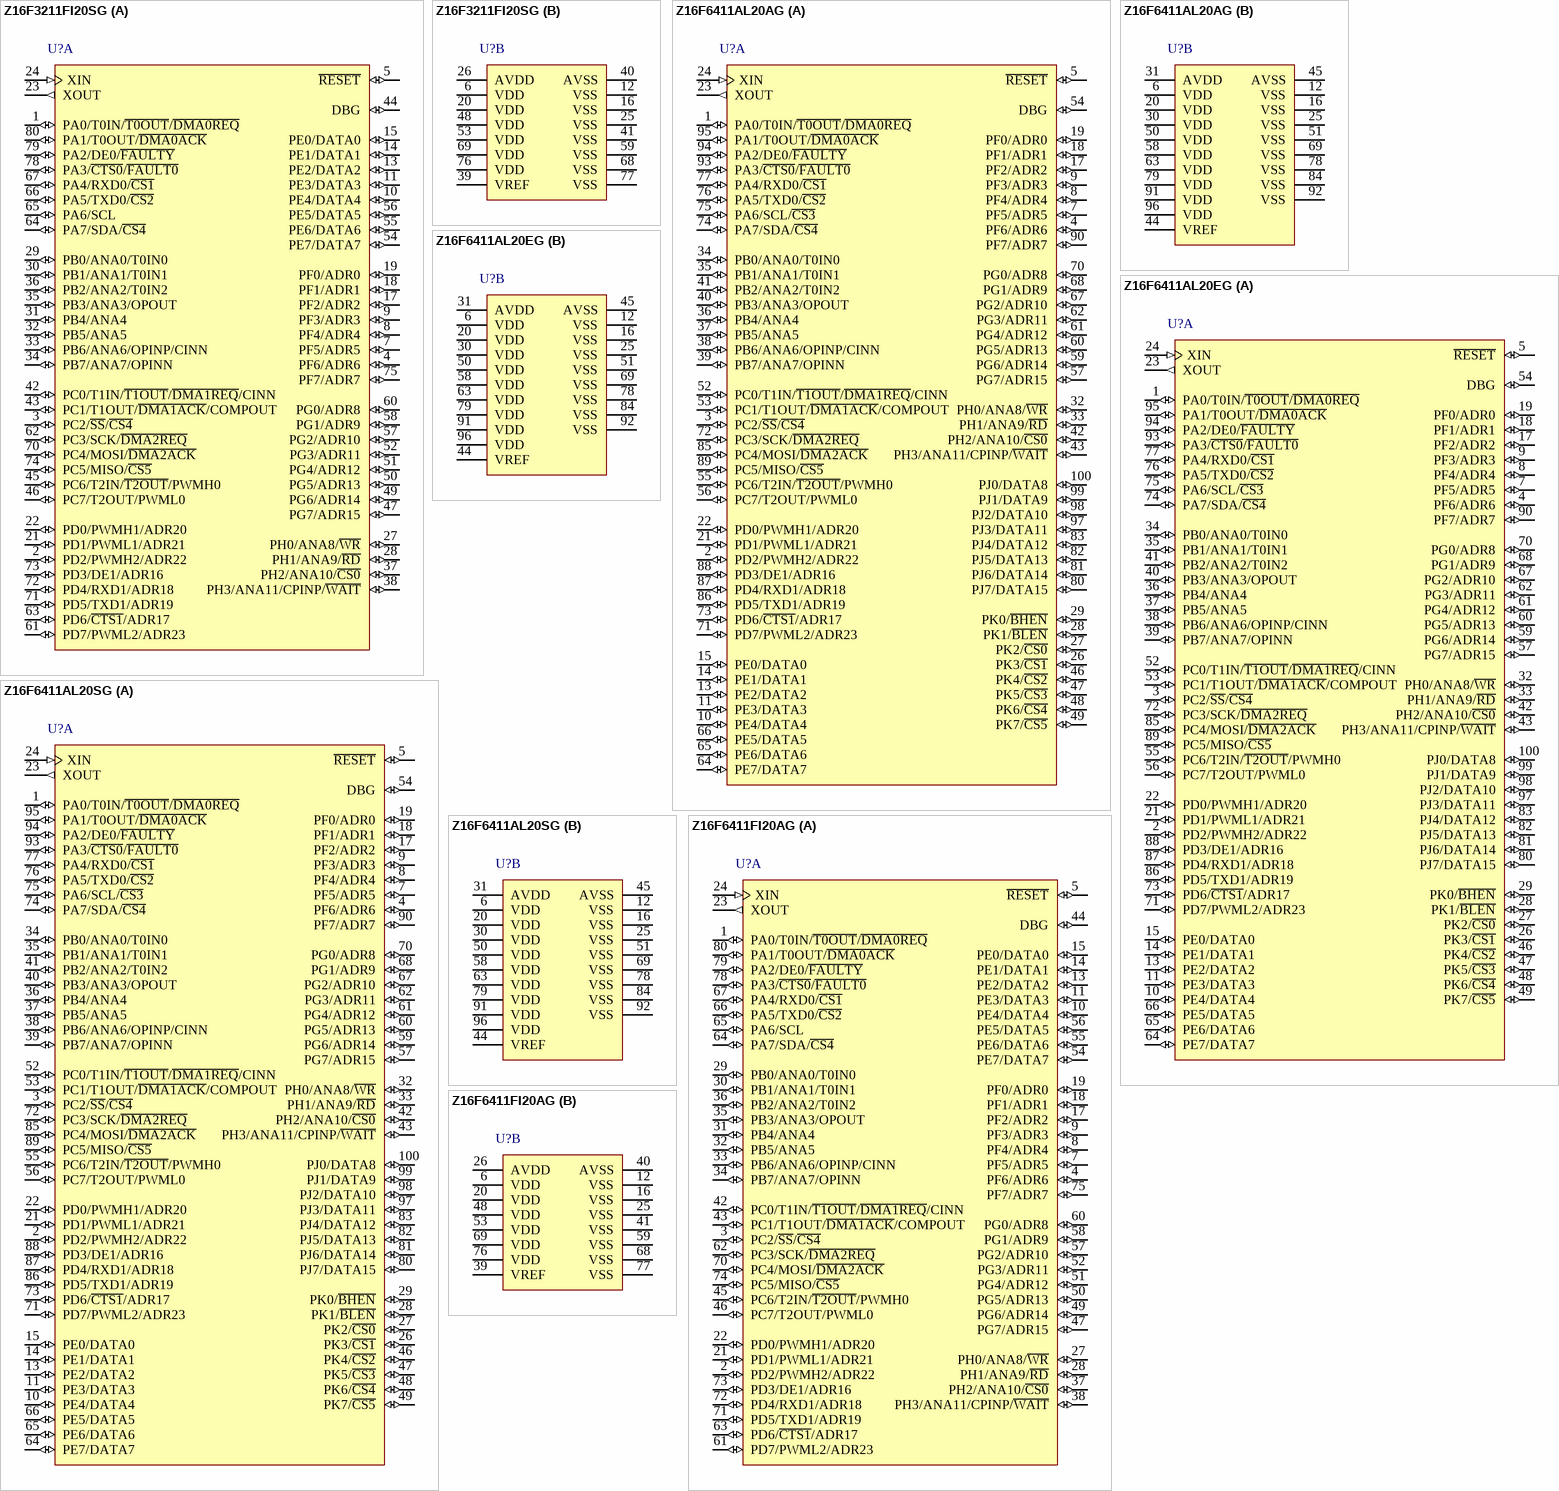
[diagram p4: symbols Z16F3211FI20SG to Z16F6411FI20AG]